# Altium schematic symbol library ThanhNT.SchLib: 223 symbols (part 2 of 3)
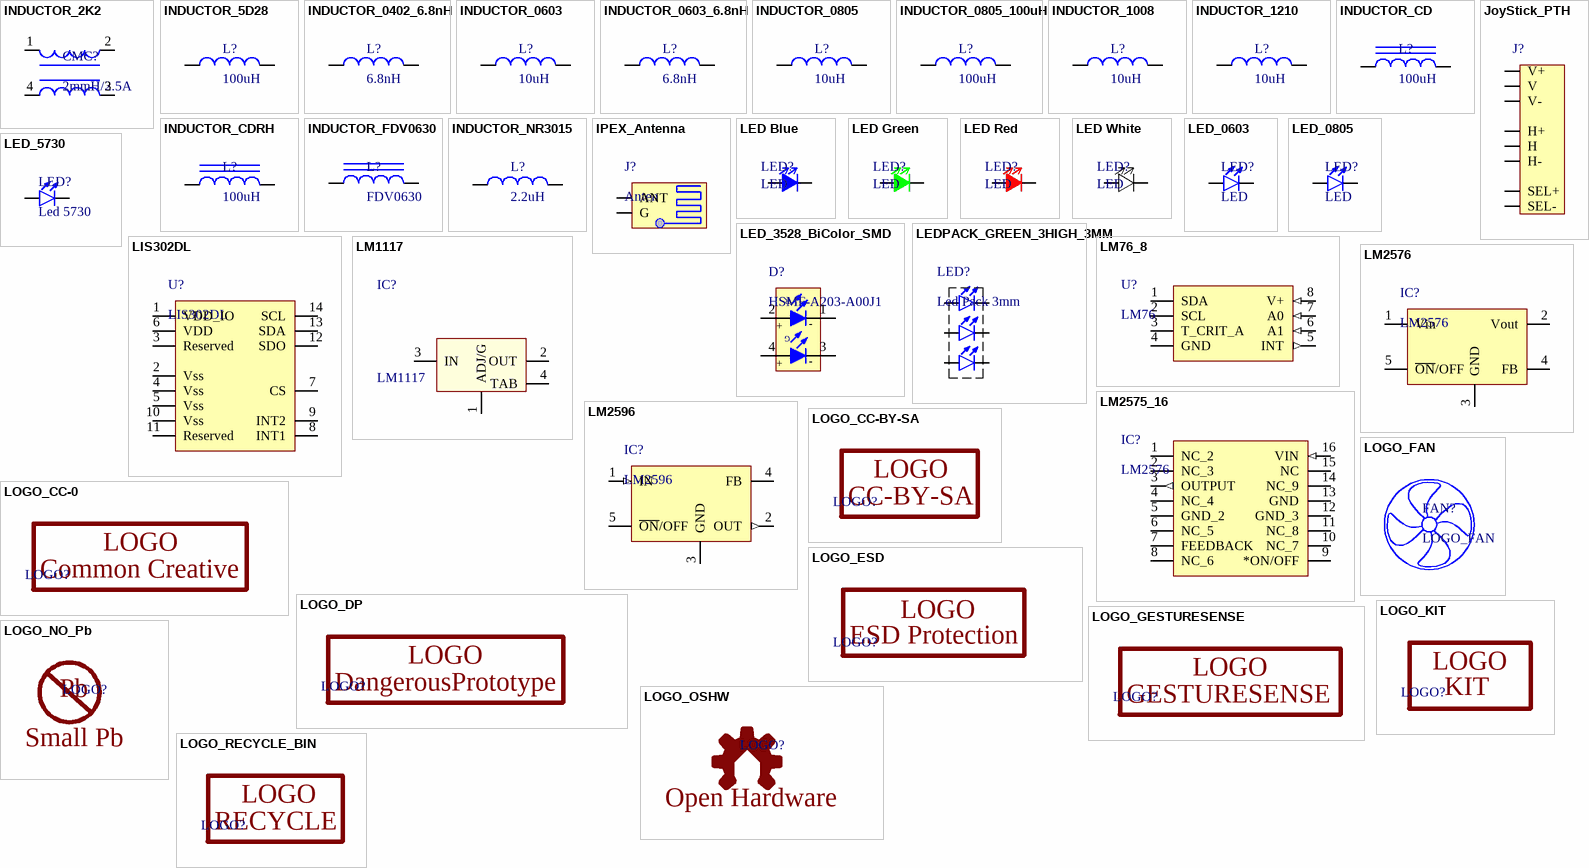
[diagram p7: symbols INDUCTOR_2K2 to LOGO_RECYCLE_BIN]

## LED_3528_BiColor_SMD
designator D?, comment HSMF-A203-A00J1
Manufacturer 1: Broadcom Limited; Description 1: LED GREEN/RED CLEAR 4PLCC SMD; Color: Green, Red; Lens Color: Colorless; Lens Transparency: Clear; Millicandela Rating: 8mcd Green, 16mcd Red; Lens Style/Size: Round with Flat Top, 2.20mm; Voltage - Forward (Vf) (Typ): 2.2V Green, 2.2V Red; Current - Test: 20mA Green, 20mA Red; Viewing Angle: 120°; Wavelength - Dominant: 560nm Green, 626nm Red; Wavelength - Peak: 558nm Green, 635nm Red; Supplier 1: Digi-Key; Manufacturer Part Number 1: HSMF-A203-A00J1; RoHS: RoHS Compliant; Category: Optoelectronics; Stock 1: 33976; Pricing 1: 1=0.62, 10=0.473, 25=0.396, 100=0.341, 250=0.30252, 500=0.2585, 1000=0.2035 (USD); Packaging: Cut Tape (CT); Part Status: Active; Mounting Type: Surface Mount; Features: -; Package / Case: 4-PLCC; Supplier Device Package: 4-PLCC; Size / Dimension: 3.20mm L x 2.80mm W; Height (Max): 2.10mm; ComponentLink1URL: http://www.avagotech.com/docs/AV02-0501EN; ComponentLink1Description: http://www.avagotech.com/docs/AV02-0501EN; Supplier Part Number 1: 516-3061-1-ND
footprint LED_3528_WL-SBTW
pins: 1 -, 2 +, 3 -, 4 +
text: R; G

## LED_5730
designator LED?, comment Led 5730
footprint LED_5730
pins: A, K

## LEDPACK_GREEN_3HIGH_3MM
designator LED?, comment Led Pack 3mm
footprint LED_3-HIGH_3MM (LED Circuit Board Indicator Tri-Level)
pins: A1 A, A2 A, A3 A, K1 K, K2 K, K3 K

## LIS302DL
designator U?
Low-Power 3 Axes Accelerometer; Manufacturer 1: STMicroelectronics; Manufacturer Part Number 1: LIS302DLTR; Description 1: ACCEL 2.3-9.2G I2C/SPI 14LGA; Axis: X, Y, Z; Acceleration Range: ±2.3g, 9.2g; Sensitivity (LSB/g): 55 (±2.3g) ~ 13 (±9.2g); Bandwidth: 50Hz ~ 200Hz; Output Type: I²C, SPI; Voltage - Supply: 2.16 V ~ 3.6 V; Supplier 1: Digi-Key; RoHS: RoHS Compliant; Category: Sensors, Transducers; Stock 1: 2691; Pricing 1: 1=2.99, 10=2.68, 100=2.1989, 500=1.87074, 1000=1.57536 (USD); Packaging: Digi-Reel®; Part Status: Active; Type: Digital; Sensitivity (mV/g): -; Features: Selectable Scale; Operating Temperature: -40°C ~ 85°C (TA); Mounting Type: Surface Mount; Package / Case: 14-VFLGA; Supplier Device Package: 14-LGA (3x5); ComponentLink1URL: http://www.st.com/web/en/resource/technical/document/datasheet/CD00135460.pdf; ComponentLink1Description: http://www.st.com/web/en/resource/technical/document/datasheet/CD00135460.pdf; Supplier Part Number 1: 497-5911-6-ND
footprint LGA-14
pins: 1 VDD_IO, 2 Vss, 3 Reserved, 4 Vss, 5 Vss, 6 VDD, 7 CS, 8 INT1, 9 INT2, 10 Vss, 11 Reserved, 12 SDO, 13 SDA, 14 SCL

## LM76_8
designator U?, comment LM76
pins: 1 SDA, 2 SCL, 3 T_CRIT_A, 4 GND, 5 INT (out), 6 A1 (in), 7 A0 (in), 8 V+ (in)

## LM1117
designator IC?
Available in 1.8V, 2.5V, 2.85V, 3.3V, 5V, and  Adjustable Versions; Value: LM317
footprint SOT223 (SOT223 /SC-73)
footprint SOT89-3 (JEDEC TO-243 option AA / SOT89)
pins: 1 ADJ/G, 2 OUT, 3 IN, 4 TAB

## LM2575_16
designator IC?, comment LM2576
pins: 1 NC_2, 2 NC_3, 3 OUTPUT (out), 4 NC_4, 5 GND_2 (power), 6 NC_5, 7 FEEDBACK, 8 NC_6, 9 *ON/OFF, 10 NC_7, 11 NC_8, 12 GND_3 (power), 13 GND (power), 14 NC_9, 15 NC, 16 VIN (in)

## LM2576
designator IC?
footprint D2PAK-5, TO-263-5 (D-PAK/TO-263-5; 5 Leads; Body 14.4 (inc. leads) x 10.4 mm (LxW max))
pins: 1 Vin, 2 Vout, 3 GND, 4 FB, 5 ~{ON}/OFF

## LM2596
designator IC?
footprint T05D
footprint D2PAK-5, TO-263-5 (D-PAK/TO-263-5; 5 Leads; Body 14.4 (inc. leads) x 10.4 mm (LxW max))
pins: 1 IN (in), 2 OUT (out), 3 GND, 4 FB, 5 ~{ON}/OFF

## LOGO_CC-0
designator LOGO?  (value not drawn)
footprint LOGO_CC-0
text: LOGO; Common Creative

## LOGO_CC-BY-SA
designator LOGO?  (value not drawn)
footprint LOGO_CC-BY-SA
text: LOGO; CC-BY-SA

## LOGO_DP
designator LOGO?  (value not drawn)
footprint LOGO_DP (Dangerous Prototype Logo)
footprint LOGO_DP_ART_0.5X0.5 (Dangerous Prototype Logo)
footprint LOGO_DP_ART_1X1 (Dangerous Prototype Logo)
text: LOGO; DangerousPrototype

## LOGO_ESD
designator LOGO?  (value not drawn)
footprint LOGO_ESD_SYMBOL
text: LOGO; ESD Protection

## LOGO_FAN
designator FAN?

## LOGO_GESTURESENSE
designator LOGO?  (value not drawn)
footprint LOGO_GESTURESENSE (Logo Gesturesense(TM))
text: LOGO; GESTURESENSE

## LOGO_KIT
designator LOGO?  (value not drawn)
footprint LOGO_FKIT-MEDIUM
footprint LOGO_FKIT-SMALL
footprint LOGO_FKIT-VERY_SMALL
text: LOGO; KIT

## LOGO_NO_Pb
designator LOGO?
footprint LOGO_PB_SMALL
text: Pb; Small Pb

## LOGO_OSHW
designator LOGO?  (value not drawn)
footprint LOGO-OSHW-L (Open Source - Hardware)
footprint LOGO-OSHW-M (Open Source - Hardware)
footprint LOGO-OSHW-S (Open Source - Hardware)
text: Open Hardware

## LOGO_RECYCLE_BIN
designator LOGO?  (value not drawn)
footprint LOGO_RECYCLE_BIN1/8
text: LOGO; RECYCLE

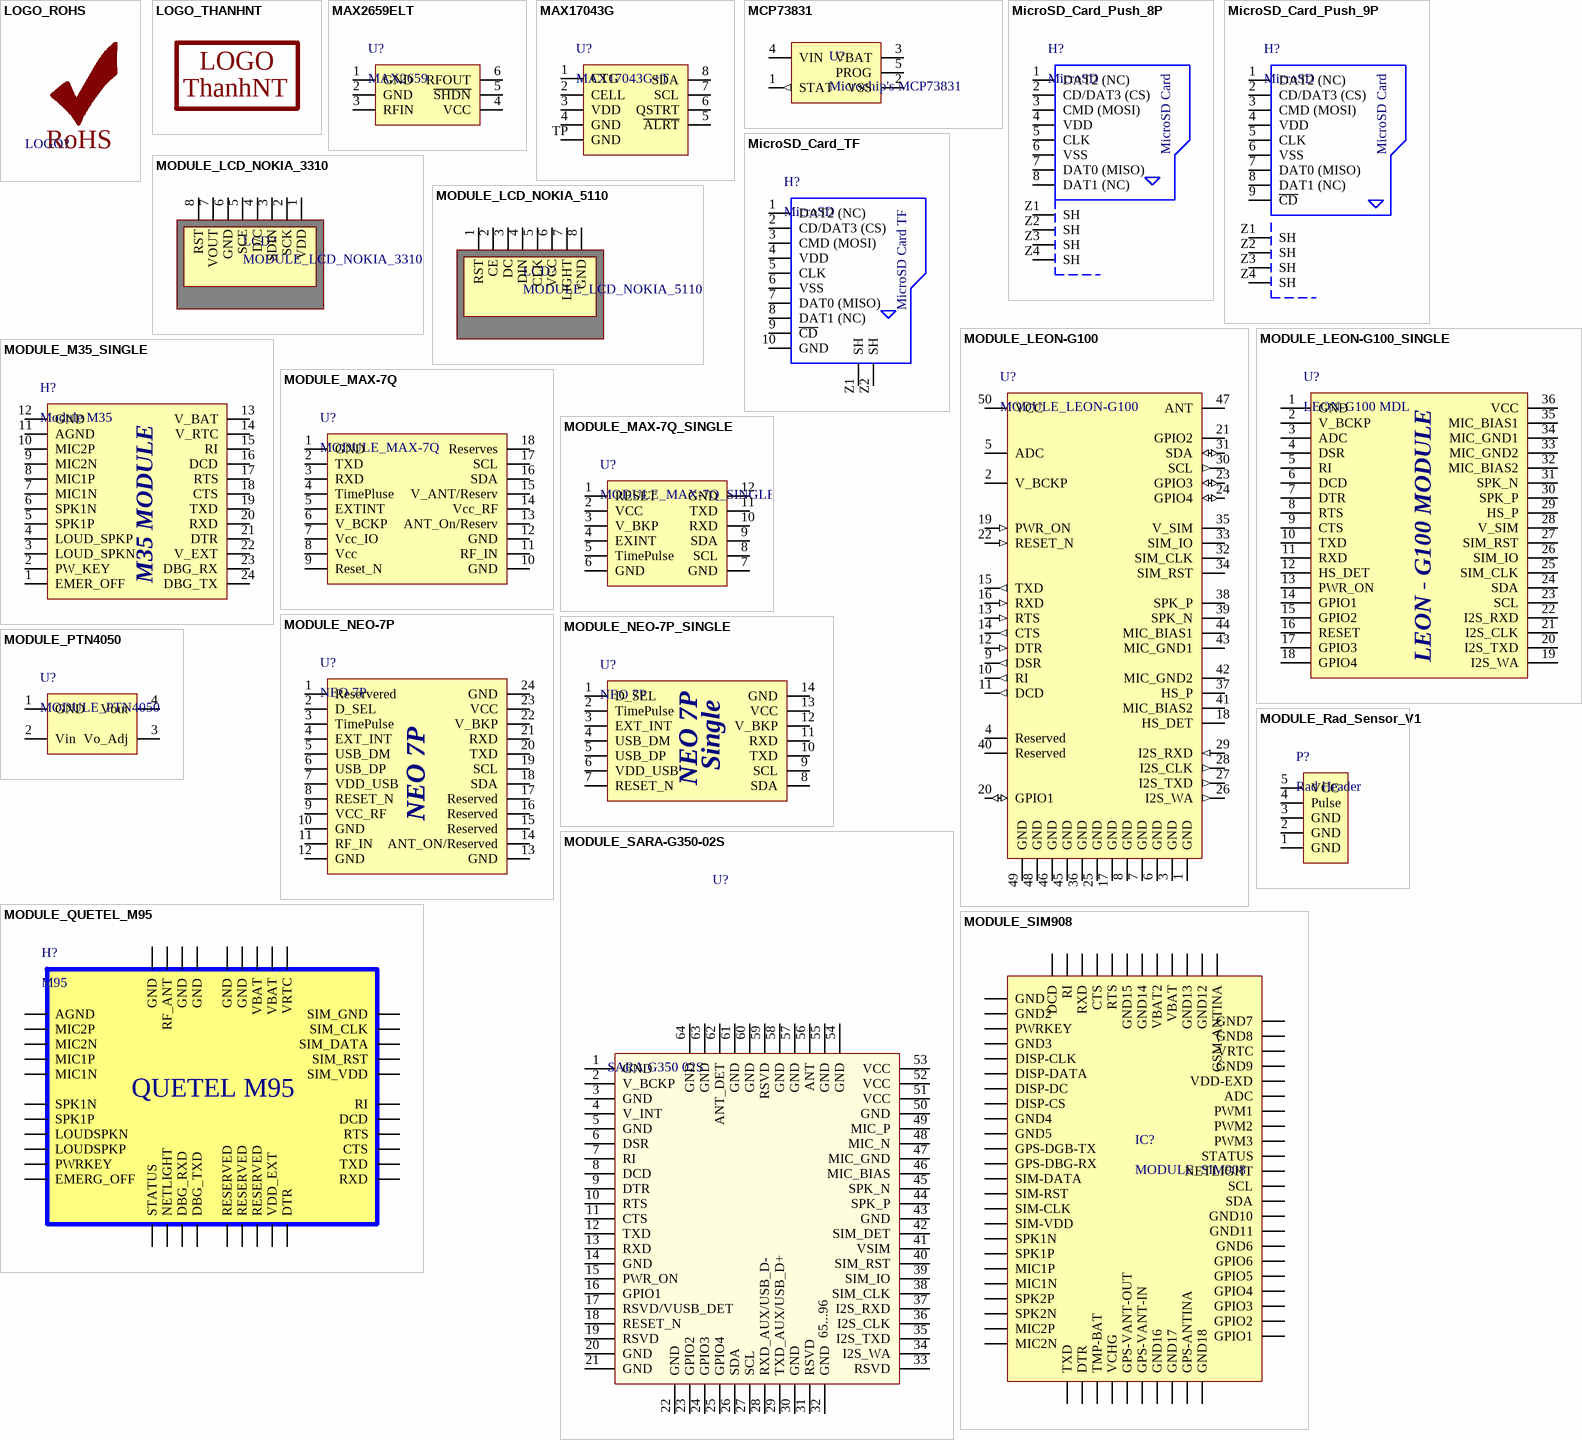
[diagram p3: symbols LOGO_ROHS to MODULE_SIM908]

## LOGO_ROHS
designator LOGO?
footprint LOGO_ROHS (RoHS Logo)
text: RoHS

## LOGO_THANHNT
designator LOGO?
footprint LOGO_THANHNT
text: LOGO; ThanhNT

## MAX2659ELT
designator U?, comment MAX2659
GPS Signal Amplifier; Manufacturer 1: Maxim Integrated; Manufacturer Part Number 1: MAX2659ELT+T; Description 1: IC AMP LOW NOISE 6-UDFN; Frequency: 1575.42MHz; P1dB: -12dBm; Gain: 20.5dB; Noise Figure: 0.8dB; RF Type: GPS/GNSS; Voltage - Supply: 1.6 V ~ 3.3 V; Current - Supply: 4.1mA; Supplier 1: Digi-Key; RoHS: RoHS Compliant; Category: RF/IF and RFID; Stock 1: 2104; Pricing 1: 1=1.51, 10=1.428, 25=1.1424, 50=1.0852, 100=0.9996, 250=0.9482, 500=0.91392 (USD); Packaging: Cut Tape (CT); Part Status: Discontinued; Test Frequency: 1575.42MHz; Package / Case: 6-WFDFN; Supplier Device Package: 6-uDFN (1.5x1.0); ComponentLink1URL: http://datasheets.maximintegrated.com/en/ds/MAX2659.pdf; ComponentLink1Description: http://datasheets.maximintegrated.com/en/ds/MAX2659.pdf; Supplier Part Number 1: MAX2659ELT+TCT-ND
footprint UDFN-6
pins: 1 GND, 2 GND, 3 RFIN, 4 VCC, 5 ~{SHDN}, 6 RFOUT

## MAX17043G
designator U?, comment MAX17043G+T
Battery Battery Monitor IC Lithium-Ion/Polymer; Manufacturer 1: Maxim Integrated; Description 1: IC 2-WIRE FG MODEL GAUGE LO BATT; Number of Cells: 1; Interface: I²C; Supplier 1: Digi-Key; Manufacturer Part Number 1: MAX17043G+T; RoHS: RoHS Compliant; Category: Integrated Circuits (ICs); Stock 1: 0; Pricing 1: 0=0 (USD); Packaging: Tape & Reel (TR); Part Status: Active; Function: Battery Monitor; Battery Chemistry: Lithium-Ion/Polymer; Fault Protection: -; Operating Temperature: -20°C ~ 70°C (TA); Package / Case: 8-WFDFN Exposed Pad; Supplier Device Package: 8-TDFN (2x3); ComponentLink1URL: http://datasheets.maximintegrated.com/en/ds/MAX17043-MAX17044.pdf; ComponentLink1Description: http://datasheets.maximintegrated.com/en/ds/MAX17043-MAX17044.pdf; Supplier Part Number 1: MAX17043G+T-ND
footprint TDFN-8
pins: 1 CTG, 2 CELL, 3 VDD, 4 GND, 5 ~{ALRT}, 6 QSTRT, 7 SCL, 8 SDA, TP GND

## MCP73831
designator U?, comment Microchip's MCP73831
Manufacturer 1: Microchip Technology; Manufacturer Part Number 1: MCP73831T-2ACI/OT; Description 1: IC CONTROLLR LI-ION 4.2V SOT23-5; Battery Chemistry: Lithium-Ion/Polymer; Number of Cells: 1; Current - Charging: Constant - Programmable; Programmable Features: Current; Fault Protection: Over Voltage; Charge Current - Max: 500mA; Battery Pack Voltage: 4.2V; Voltage - Supply (Max): 6V; Supplier 1: Digi-Key; RoHS: RoHS Compliant; Category: Integrated Circuits (ICs); Stock 1: 30932; Pricing 1: 1=0.56, 25=0.47, 100=0.42 (USD); Packaging: Digi-Reel®; Part Status: Active; Interface: -; Operating Temperature: -40°C ~ 85°C (TA); Package / Case: SC-74A, SOT-753; Supplier Device Package: SOT-23-5; ComponentLink1URL: http://www.microchip.com/mymicrochip/filehandler.aspx?ddocname=en025112; ComponentLink1Description: http://www.microchip.com/mymicrochip/filehandler.aspx?ddocname=en025112; Supplier Part Number 1: MCP73831T-2ACI/OTDKR-ND
footprint SOT23-5
pins: 1 STAT (out), 2 VSS (power), 3 VBAT (power), 4 VIN (power), 5 PROG

## MicroSD_Card_Push_8P
designator H?, comment MicroSD
footprint CONN_Micro_SD_Hinge_8P (WR-CRD Micro SD_Hinge_8 pins (MicroSD TF v2 - MinhHa))
footprint CONN_MICRO_SD_PUSH_8P (WR-CRD Micro SD_Push and Push_Card Detection_8 pins (MinhHa TF v5))
pins: 1 DAT2 (NC), 2 CD/DAT3 (CS), 3 CMD (MOSI), 4 VDD, 5 CLK, 6 VSS, 7 DAT0 (MISO), 8 DAT1 (NC), Z1 SH, Z2 SH, Z3 SH, Z4 SH
text: MicroSD Card

## MicroSD_Card_Push_9P
designator H?, comment MicroSD
footprint CONN_MICRO_SD_PUSH_9P (WR-CRD Micro SD_Push and Push_Card Detection_9 pins (MinhHa TF v3))
pins: 1 DAT2 (NC), 2 CD/DAT3 (CS), 3 CMD (MOSI), 4 VDD, 5 CLK, 6 VSS, 7 DAT0 (MISO), 8 DAT1 (NC), 9 ~{CD}, Z1 SH, Z2 SH, Z3 SH, Z4 SH
text: MicroSD Card

## MicroSD_Card_TF
designator H?, comment MicroSD
footprint CONN_Micro_SD_TF_8P_1 (MicroSD TF 8 Pin (MicroSD TF v1 - MinhHa))
pins: 1 DAT2 (NC), 2 CD/DAT3 (CS), 3 CMD (MOSI), 4 VDD, 5 CLK, 6 VSS, 7 DAT0 (MISO), 8 DAT1 (NC), 9 ~{CD}, 10 GND, Z1 SH, Z2 SH
text: MicroSD Card TF

## MODULE_LCD_NOKIA_3310
designator LCD?
NOKIA 3310 LCD
footprint MODULE_LCD_NOKIA_3310 (NOKIA 3310 LCD)
pins: 1 VDD, 2 SCK, 3 SDIN, 4 D/C, 5 SCE, 6 GND, 7 VOUT, 8 RST

## MODULE_LCD_NOKIA_5110
designator LCD?
NOKIA 5110 LCD
footprint MODULE_LCD_NOKIA_5110 (NOKIA 5110 LCD)
pins: 1 RST, 2 CE, 3 DC, 4 DIN, 5 CLK, 6 VCC, 7 LIGHT, 8 GND

## MODULE_LEON-G100
designator U?
footprint MODULE_LEON-GX (Footprint not found)
pins: 1 GND, 2 V_BCKP, 3 GND, 4 Reserved, 5 ADC, 6 GND, 7 GND, 8 GND, 9 DSR (out), 10 RI (out), 11 DCD (out), 12 DTR (in), 13 RTS (in), 14 CTS (out), 15 TXD (out), 16 RXD (in), 17 GND, 18 HS_DET, 19 PWR_ON (in), 20 GPIO1 (io), 21 GPIO2, 22 RESET_N (in), 23 GPIO3 (io), 24 GPIO4 (io), 25 GND, 26 I2S_WA (out), 27 I2S_TXD (out), 28 I2S_CLK (out), 29 I2S_RXD (in), 30 SCL (out), 31 SDA (io), 32 SIM_CLK, 33 SIM_IO, 34 SIM_RST, 35 V_SIM, 36 GND, 37 HS_P, 38 SPK_P, 39 SPK_N, 40 Reserved, 41 MIC_BIAS2, 42 MIC_GND2, 43 MIC_GND1, 44 MIC_BIAS1, 45 GND, 46 GND, 47 ANT, 48 GND, 49 GND, 50 VCC

## MODULE_LEON-G100_SINGLE
designator U?, comment LEON-G100 MDL
footprint MODULE_LEON-G100_SINGLE
pins: 1 GND, 2 V_BCKP, 3 ADC, 4 DSR, 5 RI, 6 DCD, 7 DTR, 8 RTS, 9 CTS, 10 TXD, 11 RXD, 12 HS_DET, 13 PWR_ON, 14 GPIO1, 15 GPIO2, 16 RESET, 17 GPIO3, 18 GPIO4, 19 I2S_WA, 20 I2S_TXD, 21 I2S_CLK, 22 I2S_RXD, 23 SCL, 24 SDA, 25 SIM_CLK, 26 SIM_IO, 27 SIM_RST, 28 V_SIM, 29 HS_P, 30 SPK_P, 31 SPK_N, 32 MIC_BIAS2, 33 MIC_GND2, 34 MIC_GND1, 35 MIC_BIAS1, 36 VCC
text: LEON - G100 MODULE

## MODULE_M35_SINGLE
designator H?, comment Module M35
footprint Module_M35_SINGLE
pins: 1 EMER_OFF, 2 PW_KEY, 3 LOUD_SPKN, 4 LOUD_SPKP, 5 SPK1P, 6 SPK1N, 7 MIC1N, 8 MIC1P, 9 MIC2N, 10 MIC2P, 11 AGND, 12 GND, 13 V_BAT, 14 V_RTC, 15 RI, 16 DCD, 17 RTS, 18 CTS, 19 TXD, 20 RXD, 21 DTR, 22 V_EXT, 23 DBG_RX, 24 DBG_TX
text: M35 MODULE

## MODULE_MAX-7Q
designator U?
footprint MODULE_MAX-7Q
pins: 1 GND, 2 TXD, 3 RXD, 4 TimePluse, 5 EXTINT, 6 V_BCKP, 7 Vcc_IO, 8 Vcc, 9 Reset_N, 10 GND, 11 RF_IN, 12 GND, 13 ANT_On/Reserv, 14 Vcc_RF, 15 V_ANT/Reserv, 16 SDA, 17 SCL, 18 Reserves

## MODULE_MAX-7Q_SINGLE
designator U?
footprint MODULE_MAX-7Q-SINGLE
pins: 1 RESET, 2 VCC, 3 V_BKP, 4 EXINT, 5 TimePulse, 6 GND, 7 GND, 8 SCL, 9 SDA, 10 RXD, 11 TXD, 12 GND

## MODULE_NEO-7P
designator U?, comment NEO 7P
Module GPS NEO 7P (Ublox)
footprint MODULE_NEO-7P
pins: 1 Reservered, 2 D_SEL, 3 TimePulse, 4 EXT_INT, 5 USB_DM, 6 USB_DP, 7 VDD_USB, 8 RESET_N, 9 VCC_RF, 10 GND, 11 RF_IN, 12 GND, 13 GND, 14 ANT_ON/Reserved, 15 Reserved, 16 Reserved, 17 Reserved, 18 SDA, 19 SCL, 20 TXD, 21 RXD, 22 V_BKP, 23 VCC, 24 GND

## MODULE_NEO-7P_SINGLE
designator U?, comment NEO 7P
Module GPS NEO 7P (Ublox)
footprint MODULE_NEO-7P_SINGLE
pins: 1 D_SEL, 2 TimePulse, 3 EXT_INT, 4 USB_DM, 5 USB_DP, 6 VDD_USB, 7 RESET_N, 8 SDA, 9 SCL, 10 TXD, 11 RXD, 12 V_BKP, 13 VCC, 14 GND
text: Single

## MODULE_PTN4050
designator U?
footprint EUU
pins: 1 GND, 2 Vin, 3 Vo_Adj, 4 Vout

## MODULE_QUETEL_M95
designator H?, comment M95
footprint MODULE_QUETEL_M95
pins: 1 AGND, 2 MIC2P, 3 MIC2N, 4 MIC1P, 5 MIC1N, 6 SPK1N, 7 SPK1P, 8 LOUDSPKN, 9 LOUDSPKP, 10 PWRKEY, 11 EMERG_OFF, 12 STATUS, 13 NETLIGHT, 14 DBG_RXD, 15 DBG_TXD, 16 RESERVED, 17 RESERVED, 18 RESERVED, 19 VDD_EXT, 20 DTR, 21 RXD, 22 TXD, 23 CTS, 24 RTS, 25 DCD, 26 RI, 27 SIM_VDD, 28 SIM_RST, 29 SIM_DATA, 30 SIM_CLK, 31 SIM_GND, 32 VRTC, 33 VBAT, 34 VBAT, 35 GND, 36 GND, 37 GND, 38 GND, 39 RF_ANT, 40 GND
text: QUETEL M95

## MODULE_Rad_Sensor_V1
designator P?, comment Rad Header
footprint Rad_Sensor
pins: 1 GND, 2 GND, 3 GND, 4 Pulse, 5 VCC

## MODULE_SARA-G350-02S
designator U?, comment SARA G350 02S
GSM/GPRS and GSM/EGPRS/HSPA Cellular Module; Manufacturer 1: U-Blox America Inc.; Manufacturer Part Number 1: SARA-G350-02S; Description 1: RF TXRX MODULE CELLULAR; Protocol: GPRS, GSM; Frequency: 824MHz ~ 960MHz, 1.71GHz ~ 1.99GHz; Data Rate: 85.6kbps; Power - Output: 32.2dBm; Sensitivity: -109dBm; Serial Interfaces: SPI, UART; Antenna Type: Not Included; Voltage - Supply: 3.8V; Current - Receiving: 350mA; Supplier 1: Digi-Key; RoHS: RoHS Compliant; Category: RF/IF and RFID; Stock 1: 0; Pricing 1: 1=21.28, 10=17.45, 50=14.83, 100=12.6101 (USD); Packaging: Digi-Reel®; Part Status: Active; RF Family/Standard: Cellular; Modulation: -; Memory Size: -; Current - Transmitting: 350mA; Mounting Type: Surface Mount; Operating Temperature: -40°C ~ 85°C; Package / Case: *; ComponentLink1URL: https://www.u-blox.com/sites/default/files/SARA-G3_DataSheet_(UBX-13000993).pdf; ComponentLink1Description: https://www.u-blox.com/sites/default/files/SARA-G3_DataSheet_(UBX-13000993).pdf; Supplier Part Number 1: 672-1024-6-ND
footprint MODULE_U-BLOX-SARA-XX
pins: 1 GND, 2 V_BCKP, 3 GND, 4 V_INT, 5 GND, 6 DSR, 7 RI, 8 DCD, 9 DTR, 10 RTS, 11 CTS, 12 TXD, 13 RXD, 14 GND, 15 PWR_ON, 16 GPIO1, 17 RSVD/VUSB_DET, 18 RESET_N, 19 RSVD, 20 GND, 21 GND, 22 GND, 23 GPIO2, 24 GPIO3, 25 GPIO4, 26 SDA, 27 SCL, 28 RXD_AUX/USB_D-, 29 TXD_AUX/USB_D+, 30 GND, 31 RSVD, 32 GND, 33 RSVD, 34 I2S_WA, 35 I2S_TXD, 36 I2S_CLK, 37 I2S_RXD, 38 SIM_CLK, 39 SIM_IO, 40 SIM_RST, 41 VSIM, 42 SIM_DET, 43 GND, 44 SPK_P, 45 SPK_N, 46 MIC_BIAS, 47 MIC_GND, 48 MIC_N, 49 MIC_P, 50 GND, 51 VCC, 52 VCC, 53 VCC, 54 GND, 55 GND, 56 ANT, 57 GND, 58 GND, 59 RSVD, 60 GND, 61 GND, 62 ANT_DET, 63 GND, 64 GND, 65 GND, 66 GND, 67 GND, 68 GND, 69 GND, 70 GND, 71 GND, 72 GND, 73 GND, 74 GND, 75 GND, 76 GND, 77 GND, 78 GND, 79 GND, 80 GND, 81 GND, 82 GND, 83 GND, 84 GND, 85 GND, 86 GND, 87 GND, 88 GND, 89 GND, 90 GND, 91 GND, 92 GND, 93 GND, 94 GND, 95 GND, 96 GND
text: 65...96

## MODULE_SIM908
designator IC?
footprint MODULE_SIM908
pins: ADC, CTS, DCD, DISP-CLK, DISP-CS, DISP-DATA, DISP-DC, DTR, GND, GND2, GND3, GND4, GND5, GND6, GND7, GND8, GND9, GND10, GND11, GND12, GND13, GND14, GND15, GND16, GND17, GND18, GPIO1, GPIO2, GPIO3, GPIO4, GPIO5, GPIO6, GPS-ANTINA, GPS-DBG-RXD GPS-DBG-RX, GPS-DBG-TXD GPS-DGB-TX, GPS-VANT-IN, GPS-VANT-OUT, GSM-ANTINA, MIC1N, MIC1P, MIC2N, MIC2P, NETLIGHT, PWM1, PWM2, PWM3, PWRKEY, RI, RTS, RXD, SCL, SDA, SIM-CLK, SIM-DATA, SIM-RST, SIM-VDD, SPK1N, SPK1P, SPK2N, SPK2P, STATUS, TEMP-BAT TMP-BAT, TXD, VBAT, VBAT2, VCHG, VDD-EXT VDD-EXD, VRTC

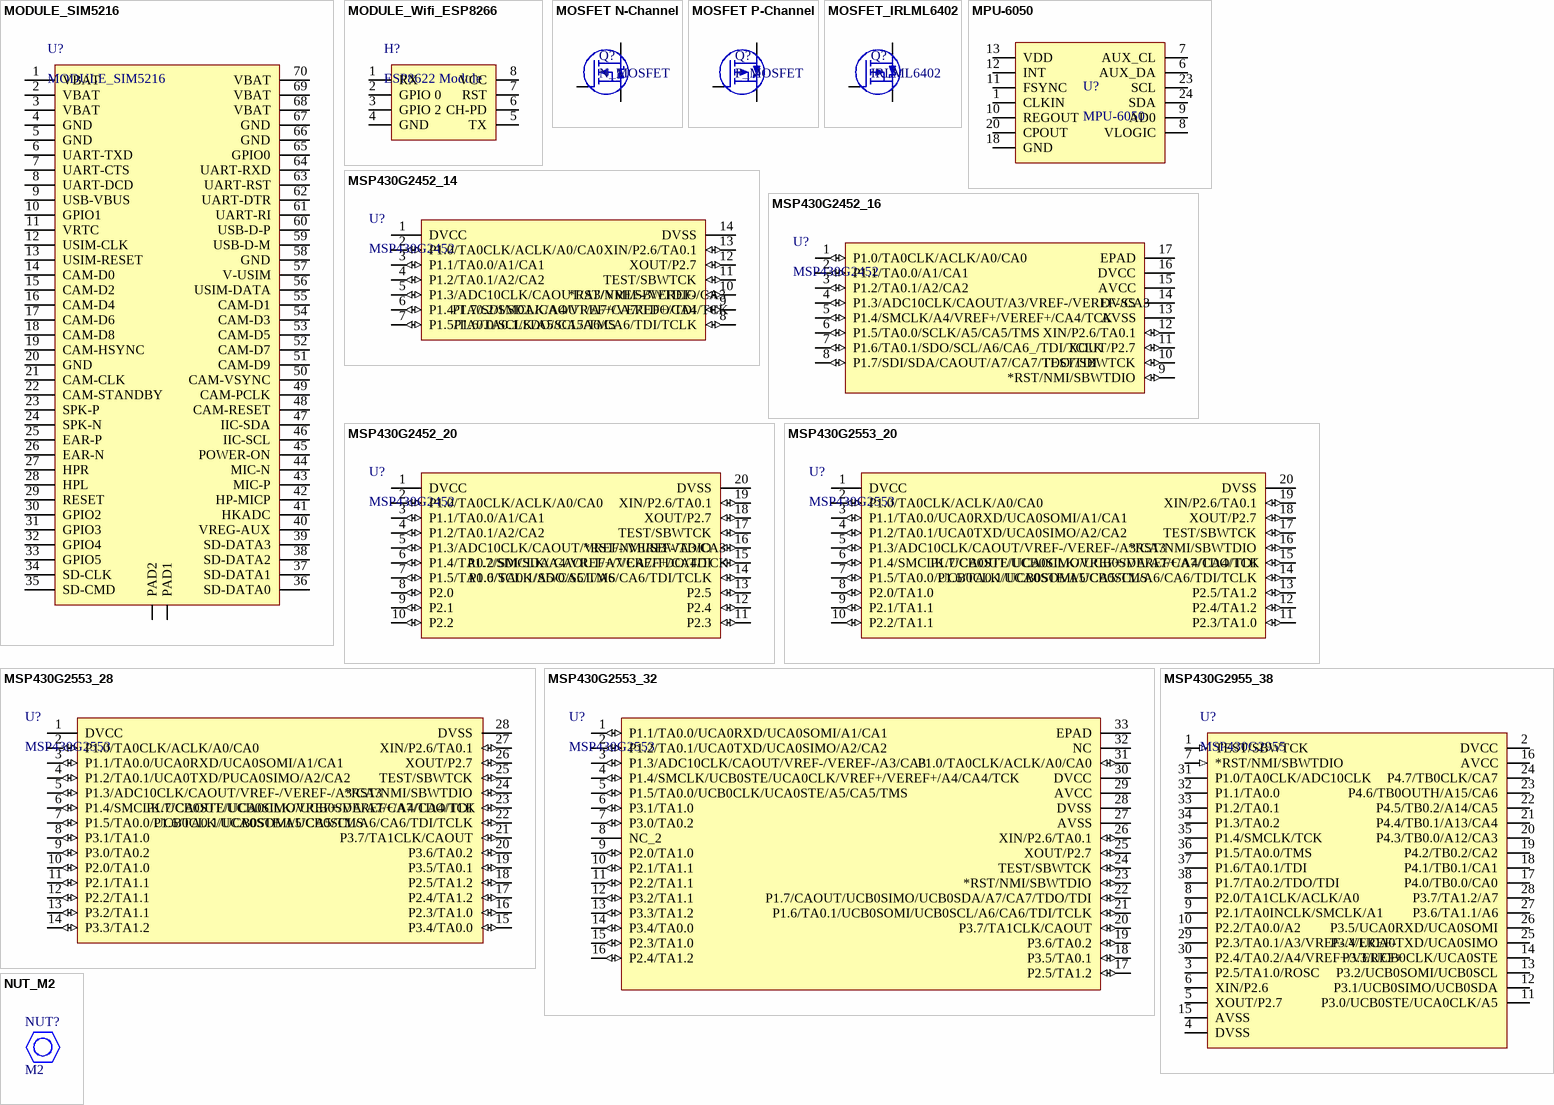
[diagram p4: symbols MODULE_SIM5216 to NUT_M2]

## MODULE_SIM5216
designator U?
footprint MODULE_SIM5216 (Board to Board Connector (SIM5215, 5216, 5218))
pins: 1 VBAT, 2 VBAT, 3 VBAT, 4 GND, 5 GND, 6 UART-TXD, 7 UART-CTS, 8 UART-DCD, 9 USB-VBUS, 10 GPIO1, 11 VRTC, 12 USIM-CLK, 13 USIM-RESET, 14 CAM-D0, 15 CAM-D2, 16 CAM-D4, 17 CAM-D6, 18 CAM-D8, 19 CAM-HSYNC, 20 GND, 21 CAM-CLK, 22 CAM-STANDBY, 23 SPK-P, 24 SPK-N, 25 EAR-P, 26 EAR-N, 27 HPR, 28 HPL, 29 RESET, 30 GPIO2, 31 GPIO3, 32 GPIO4, 33 GPIO5, 34 SD-CLK, 35 SD-CMD, 36 SD-DATA0, 37 SD-DATA1, 38 SD-DATA2, 39 SD-DATA3, 40 VREG-AUX, 41 HKADC, 42 HP-MICP, 43 MIC-P, 44 MIC-N, 45 POWER-ON, 46 IIC-SCL, 47 IIC-SDA, 48 CAM-RESET, 49 CAM-PCLK, 50 CAM-VSYNC, 51 CAM-D9, 52 CAM-D7, 53 CAM-D5, 54 CAM-D3, 55 CAM-D1, 56 USIM-DATA, 57 V-USIM, 58 GND, 59 USB-D-M, 60 USB-D-P, 61 UART-RI, 62 UART-DTR, 63 UART-RST, 64 UART-RXD, 65 GPIO0, 66 GND, 67 GND, 68 VBAT, 69 VBAT, 70 VBAT, PAD PAD1, PAD PAD2

## MODULE_Wifi_ESP8266
designator H?, comment ESP8622 Module
footprint MODULE_WIFI_ESP8622 (Connector; Header; 4x2 Position)
pins: 1 RX, 2 GPIO 0, 3 GPIO 2, 4 GND, 5 TX, 6 CH-PD, 7 RST, 8 VCC

## MOSFET N-Channel
designator Q?, comment N_MOSFET
Generic N-Channel MOSFET
footprint SOT323 (Small outline 2.1mm L x 1.25mm W x 1.1mm H; 3 lead SC70, EIAJ SC-70, SOT323)
pins: 1 G, 2 S, 3 D

## MOSFET P-Channel
designator Q?, comment P_MOSFET
Generic P-Channel MOSFET
footprint SOT323 (Small outline 2.1mm L x 1.25mm W x 1.1mm H; 3 lead SC70, EIAJ SC-70, SOT323)
pins: 1 G, 2 S, 3 D

## MOSFET_IRLML6402
designator Q?, comment IRLML6402
Generic P-Channel MOSFET; Manufacturer 1: Infineon Technologies; Manufacturer Part Number 1: IRLML6402TRPBF; Description 1: MOSFET P-CH 20V 3.7A SOT-23; FET Type: MOSFET P-Channel, Metal Oxide; FET Feature: Standard; Drain to Source Voltage (Vdss): 20V; Current - Continuous Drain (Id) @ 25°C: 3.7A (Ta); Rds On (Max) @ Id, Vgs: 65 mOhm @ 3.7A, 4.5V; Vgs(th) (Max) @ Id: 1.2V @ 250µA; Gate Charge (Qg) @ Vgs: 12nC @ 5V; Input Capacitance (Ciss) @ Vds: 633pF @ 10V; Power - Max: 1.3W; Supplier 1: Digi-Key; RoHS: RoHS Compliant; Category: Discrete Semiconductor Products; Stock 1: 207858; Pricing 1: 1=0.4, 10=0.302, 100=0.1879, 500=0.12854, 1000=0.09888 (USD); Packaging: Cut Tape (CT); Part Status: Active; Operating Temperature: -55°C ~ 150°C (TJ); Mounting Type: Surface Mount; Package / Case: TO-236-3, SC-59, SOT-23-3; Supplier Device Package: Micro3™/SOT-23; ComponentLink1URL: http://www.irf.com/product-info/datasheets/data/irlml6402pbf.pdf; ComponentLink1Description: http://www.irf.com/product-info/datasheets/data/irlml6402pbf.pdf; Supplier Part Number 1: IRLML6402PBFCT-ND
footprint SOT23-3 (SOT23, 3 pin)
pins: 1 G, 2 S, 3 D

## MPU-6050
designator U?
footprint QFN50P400X400X80-24N
pins: 1 CLKIN, 6 AUX_DA, 7 AUX_CL, 8 VLOGIC, 9 AD0, 10 REGOUT, 11 FSYNC, 12 INT, 13 VDD, 18 GND, 20 CPOUT, 23 SCL, 24 SDA

## MSP430G2452_14
designator U?, comment MSP430G2452
pins: 1 DVCC (power), 2 P1.0/TA0CLK/ACLK/A0/CA0 (io), 3 P1.1/TA0.0/A1/CA1 (io), 4 P1.2/TA0.1/A2/CA2 (io), 5 P1.3/ADC10CLK/CAOUT/A3/VREF-/VEREF-/CA3 (io), 6 P1.4/TA0.2/SMCLK/A4/VREF+/VEREF+/CA4/TCK (io), 7 P1.5/TA0.0/SCLK/A5/CA5/TMS (io), 8 P1.6/TA0.1/SDO/SCL/A6/CA6/TDI/TCLK (io), 9 P1.7/SDI/SDA/CAOUT/A7/CA7/TDO/TDI (io), 10 *RST/NMI/SBWTDIO (io), 11 TEST/SBWTCK (io), 12 XOUT/P2.7 (io), 13 XIN/P2.6/TA0.1 (io), 14 DVSS (power)

## MSP430G2452_16
designator U?, comment MSP430G2452
pins: 1 P1.0/TA0CLK/ACLK/A0/CA0 (io), 2 P1.1/TA0.0/A1/CA1 (io), 3 P1.2/TA0.1/A2/CA2 (io), 4 P1.3/ADC10CLK/CAOUT/A3/VREF-/VEREF-/CA3 (io), 5 P1.4/SMCLK/A4/VREF+/VEREF+/CA4/TCK (io), 6 P1.5/TA0.0/SCLK/A5/CA5/TMS (io), 7 P1.6/TA0.1/SDO/SCL/A6/CA6_/TDI/TCLK (io), 8 P1.7/SDI/SDA/CAOUT/A7/CA7/TDO/TDI (io), 9 *RST/NMI/SBWTDIO (io), 10 TEST/SBWTCK (io), 11 XOUT/P2.7 (io), 12 XIN/P2.6/TA0.1 (io), 13 AVSS (power), 14 DVSS (power), 15 AVCC (power), 16 DVCC (power), 17 EPAD

## MSP430G2452_20
designator U?, comment MSP430G2452
pins: 1 DVCC (power), 2 P1.0/TA0CLK/ACLK/A0/CA0 (io), 3 P1.1/TA0.0/A1/CA1 (io), 4 P1.2/TA0.1/A2/CA2 (io), 5 P1.3/ADC10CLK/CAOUT/VREF-/VEREF-/A3/CA3 (io), 6 P1.4/TA0.2/SMCLK/A4/VREF+/VEREF+/CA4/TCK (io), 7 P1.5/TA0.0/SCLK/A5/CA5/TMS (io), 8 P2.0 (io), 9 P2.1 (io), 10 P2.2 (io), 11 P2.3 (io), 12 P2.4 (io), 13 P2.5 (io), 14 P1.6/TA0.1/SDO/SCL/A6/CA6/TDI/TCLK (io), 15 P1.7/SDI/SDA/CAOUT/A7/CA7/TDO/TDI (io), 16 *RST/NMI/SBWTDIO (io), 17 TEST/SBWTCK (io), 18 XOUT/P2.7 (io), 19 XIN/P2.6/TA0.1 (io), 20 DVSS (power)

## MSP430G2553_20
designator U?, comment MSP430G2553
pins: 1 DVCC (power), 2 P1.0/TA0CLK/ACLK/A0/CA0 (io), 3 P1.1/TA0.0/UCA0RXD/UCA0SOMI/A1/CA1 (io), 4 P1.2/TA0.1/UCA0TXD/UCA0SIMO/A2/CA2 (io), 5 P1.3/ADC10CLK/CAOUT/VREF-/VEREF-/A3/CA3 (io), 6 P1.4/SMCLK/UCB0STE/UCA0CLK/VREF+/VEREF+/A4/CA4/TCK (io), 7 P1.5/TA0.0/UCB0CLK/UCA0STE/A5/CA5/TMS (io), 8 P2.0/TA1.0 (io), 9 P2.1/TA1.1 (io), 10 P2.2/TA1.1 (io), 11 P2.3/TA1.0 (io), 12 P2.4/TA1.2 (io), 13 P2.5/TA1.2 (io), 14 P1.6/TA0.1/UCB0SOMI/UCB0SCL/A6/CA6/TDI/TCLK (io), 15 P1.7/CAOUT/UCB0SIMO/UCB0SDA/A7/CA7/TDO/TDI (io), 16 *RST/NMI/SBWTDIO (io), 17 TEST/SBWTCK (io), 18 XOUT/P2.7 (io), 19 XIN/P2.6/TA0.1 (io), 20 DVSS (power)

## MSP430G2553_28
designator U?, comment MSP430G2553
footprint PW028 (Shrink Small Outline; 28 Leads; Body Width 4.4 mm; Pitch 0.65 mm)
pins: 1 DVCC (power), 2 P1.0/TA0CLK/ACLK/A0/CA0 (io), 3 P1.1/TA0.0/UCA0RXD/UCA0SOMI/A1/CA1 (io), 4 P1.2/TA0.1/UCA0TXD/PUCA0SIMO/A2/CA2 (io), 5 P1.3/ADC10CLK/CAOUT/VREF-/VEREF-/A3/CA3 (io), 6 P1.4/SMCLK/UCB0STE/UCA0CLK/VREF+/VEREF+/A4/CA4/TCK (io), 7 P1.5/TA0.0/UCB0CLK/UCA0STE/A5/CA5/TMS (io), 8 P3.1/TA1.0 (io), 9 P3.0/TA0.2 (io), 10 P2.0/TA1.0 (io), 11 P2.1/TA1.1 (io), 12 P2.2/TA1.1 (io), 13 P3.2/TA1.1 (io), 14 P3.3/TA1.2 (io), 15 P3.4/TA0.0 (io), 16 P2.3/TA1.0 (io), 17 P2.4/TA1.2 (io), 18 P2.5/TA1.2 (io), 19 P3.5/TA0.1 (io), 20 P3.6/TA0.2 (io), 21 P3.7/TA1CLK/CAOUT (io), 22 P1.6/TA0.1/UCB0SOMI/UCB0SCL/A6/CA6/TDI/TCLK (io), 23 P1.7/CAOUT/UCB0SIMO/UCB0SDA/A7/CA7/TDO/TDI (io), 24 *RST/NMI/SBWTDIO (io), 25 TEST/SBWTCK (io), 26 XOUT/P2.7 (io), 27 XIN/P2.6/TA0.1 (io), 28 DVSS (power)

## MSP430G2553_32
designator U?, comment MSP430G2553
pins: 1 P1.1/TA0.0/UCA0RXD/UCA0SOMI/A1/CA1 (io), 2 P1.2/TA0.1/UCA0TXD/UCA0SIMO/A2/CA2 (io), 3 P1.3/ADC10CLK/CAOUT/VREF-/VEREF-/A3/CA3 (io), 4 P1.4/SMCLK/UCB0STE/UCA0CLK/VREF+/VEREF+/A4/CA4/TCK (io), 5 P1.5/TA0.0/UCB0CLK/UCA0STE/A5/CA5/TMS (io), 6 P3.1/TA1.0 (io), 7 P3.0/TA0.2 (io), 8 NC_2, 9 P2.0/TA1.0 (io), 10 P2.1/TA1.1 (io), 11 P2.2/TA1.1 (io), 12 P3.2/TA1.1 (io), 13 P3.3/TA1.2 (io), 14 P3.4/TA0.0 (io), 15 P2.3/TA1.0 (io), 16 P2.4/TA1.2 (io), 17 P2.5/TA1.2 (io), 18 P3.5/TA0.1 (io), 19 P3.6/TA0.2 (io), 20 P3.7/TA1CLK/CAOUT (io), 21 P1.6/TA0.1/UCB0SOMI/UCB0SCL/A6/CA6/TDI/TCLK (io), 22 P1.7/CAOUT/UCB0SIMO/UCB0SDA/A7/CA7/TDO/TDI (io), 23 *RST/NMI/SBWTDIO (io), 24 TEST/SBWTCK (io), 25 XOUT/P2.7 (io), 26 XIN/P2.6/TA0.1 (io), 27 AVSS (power), 28 DVSS (power), 29 AVCC (power), 30 DVCC (power), 31 P1.0/TA0CLK/ACLK/A0/CA0 (io), 32 NC, 33 EPAD

## MSP430G2955_38
designator U?, comment MSP430G2955
pins: 1 TEST/SBWTCK (in), 2 DVCC (power), 3 P2.5/TA1.0/ROSC, 4 DVSS (power), 5 XOUT/P2.7, 6 XIN/P2.6, 7 *RST/NMI/SBWTDIO (in), 8 P2.0/TA1CLK/ACLK/A0, 9 P2.1/TA0INCLK/SMCLK/A1, 10 P2.2/TA0.0/A2, 11 P3.0/UCB0STE/UCA0CLK/A5, 12 P3.1/UCB0SIMO/UCB0SDA, 13 P3.2/UCB0SOMI/UCB0SCL, 14 P3.3/UCB0CLK/UCA0STE, 15 AVSS (power), 16 AVCC (power), 17 P4.0/TB0.0/CA0, 18 P4.1/TB0.1/CA1, 19 P4.2/TB0.2/CA2, 20 P4.3/TB0.0/A12/CA3, 21 P4.4/TB0.1/A13/CA4, 22 P4.5/TB0.2/A14/CA5, 23 P4.6/TB0OUTH/A15/CA6, 24 P4.7/TB0CLK/CA7, 25 P3.4/UCA0TXD/UCA0SIMO, 26 P3.5/UCA0RXD/UCA0SOMI, 27 P3.6/TA1.1/A6, 28 P3.7/TA1.2/A7, 29 P2.3/TA0.1/A3/VREF-/VEREF-, 30 P2.4/TA0.2/A4/VREF+/VEREF+, 31 P1.0/TA0CLK/ADC10CLK, 32 P1.1/TA0.0, 33 P1.2/TA0.1, 34 P1.3/TA0.2, 35 P1.4/SMCLK/TCK, 36 P1.5/TA0.0/TMS, 37 P1.6/TA0.1/TDI, 38 P1.7/TA0.2/TDO/TDI

## NUT_M2
designator NUT?, comment M2
ROEBUCK - PFP1166 - FULL NUT A4 SS M2 (PK 100); Fastener Material: Stainless Steel; .Checked SCH: MM; Category: Hardware, Fasteners, Accessories; Family: Nuts; Manufacturer: ROEBUCK; Manufacturer Part Number: PFP1166; Price 1k [$]: 0.04; Supplier: Farnell; Supplier Part Number: 1552206; Value: M2; Type: Hex; Thread Size: M2; Supplier 1: Farnell; Supplier Part Number 1: 1552206; RoHS: TBA; Stock 1: 19; Pricing 1: 100=0.0624, 500=0.0551, 1000=0.0498, 2500=0.046 (EUR); Thread Size - Metric: M2; Material: Stainless Steel; ComponentLink1URL: http://www.farnell.com/datasheets/1511479.pdf; ComponentLink1Description: http://www.farnell.com/datasheets/1511479.pdf
footprint 3D_MODEL_NUT_A4_SS_M2

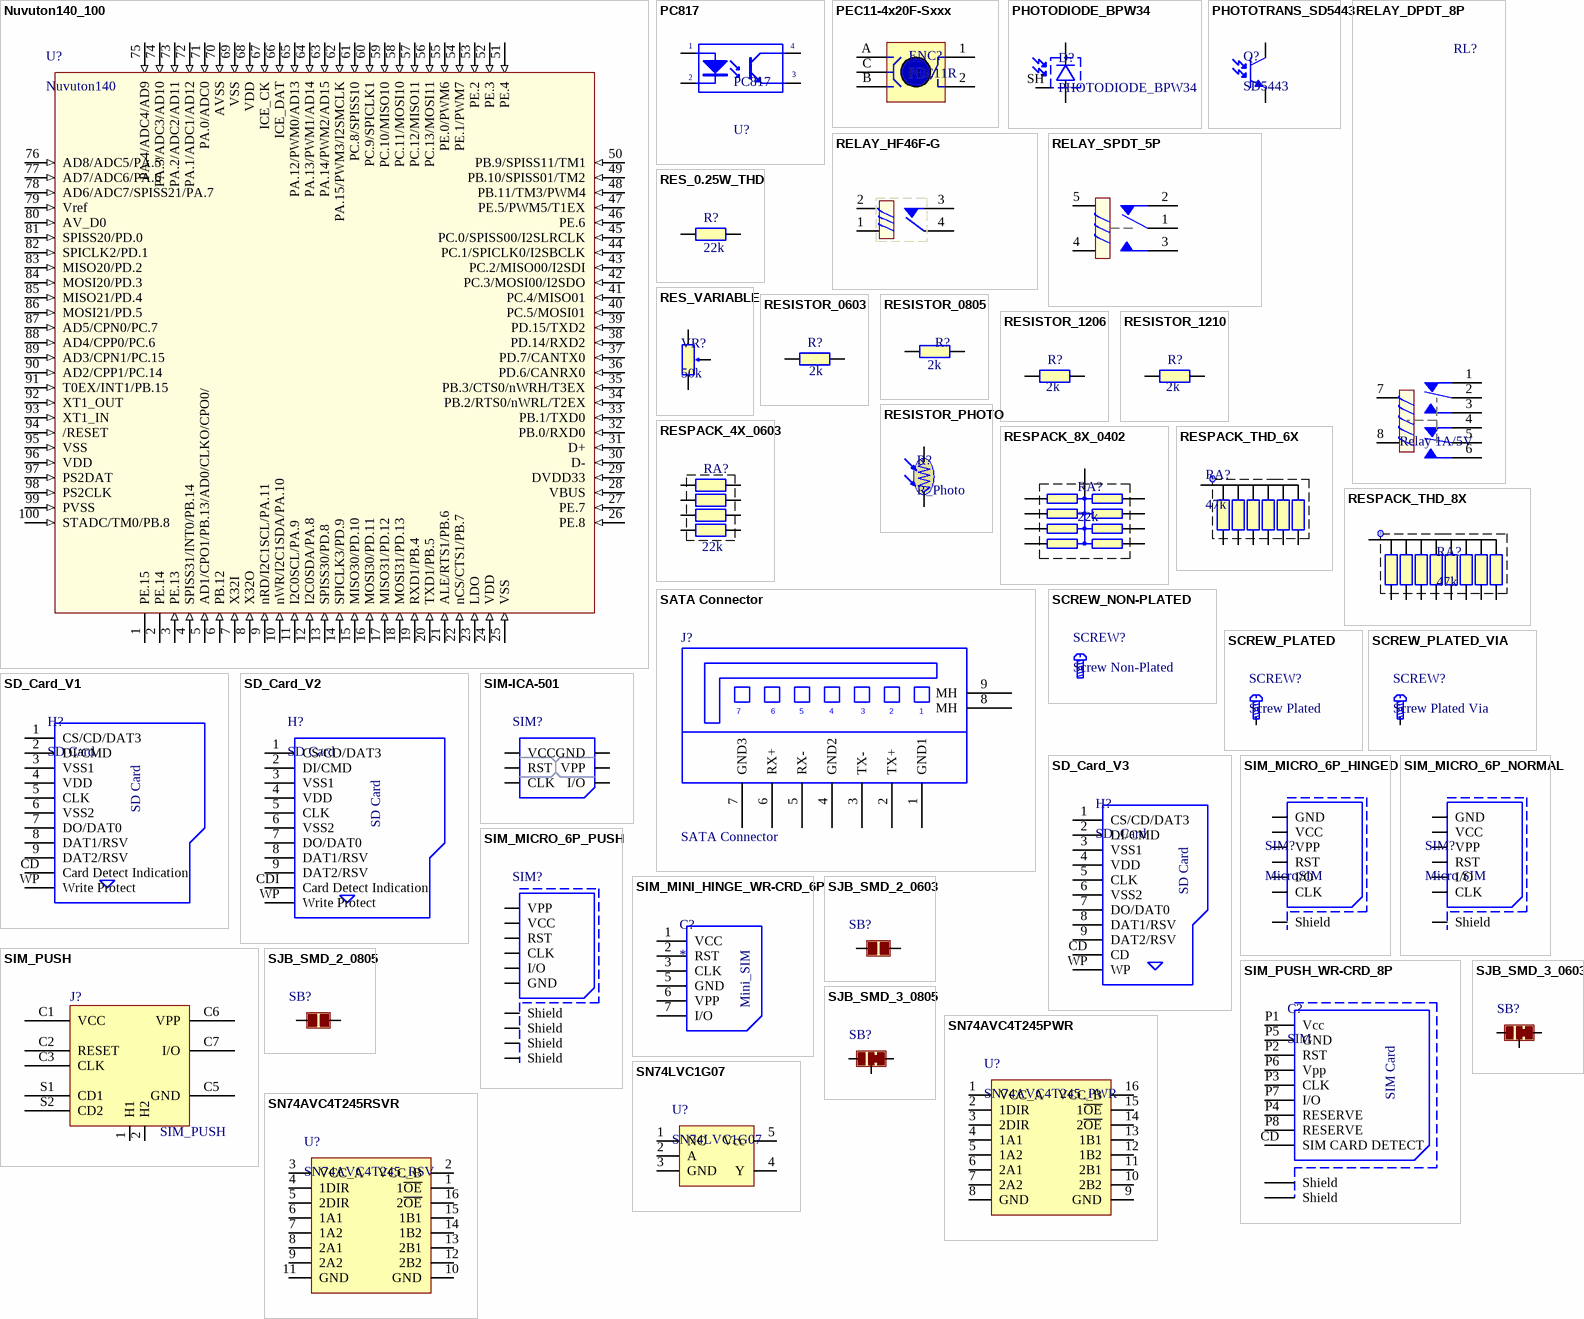
[diagram p5: symbols Nuvuton140_100 to SN74LVC1G07]

## Nuvuton140_100
designator U?, comment Nuvuton140
footprint SQFP50P1600X1600X245-100N (SQFP, 100-Leads, Body 14.00x14.00mm, Pitch 0.50mm, IPC Medium Density)
pins: 1 PE.15, 2 PE.14, 3 PE.13 (in), 4 SPISS31/INT0/PB.14 (in), 5 AD1/CPO1/PB.13/AD0/CLKO/CPO0/ (in), 6 PB.12 (in), 7 X32I (in), 8 X32O (in), 9 nRD/I2C1SCL/PA.11 (in), 10 nWR/I2C1SDA/PA.10 (in), 11 I2C0SCL/PA.9 (in), 12 I2C0SDA/PA.8 (in), 13 SPISS30/PD.8 (in), 14 SPICLK3/PD.9 (in), 15 MISO30/PD.10 (in), 16 MOSI30/PD.11 (in), 17 MISO31/PD.12 (in), 18 MOSI31/PD.13 (in), 19 RXD1/PB.4 (in), 20 TXD1/PB.5 (in), 21 ALE/RTS1/PB.6 (in), 22 nCS/CTS1/PB.7 (in), 23 LDO (in), 24 VDD (in), 25 VSS (in), 26 PE.8 (in), 27 PE.7 (in), 28 VBUS (in), 29 DVDD33 (in), 30 D- (in), 31 D+ (in), 32 PB.0/RXD0 (in), 33 PB.1/TXD0 (in), 34 PB.2/RTS0/nWRL/T2EX (in), 35 PB.3/CTS0/nWRH/T3EX (in), 36 PD.6/CANRX0 (in), 37 PD.7/CANTX0 (in), 38 PD.14/RXD2 (in), 39 PD.15/TXD2 (in), 40 PC.5/MOSI01 (in), 41 PC.4/MISO01 (in), 42 PC.3/MOSI00/I2SDO (in), 43 PC.2/MISO00/I2SDI (in), 44 PC.1/SPICLK0/I2SBCLK (in), 45 PC.0/SPISS00/I2SLRCLK (in), 46 PE.6 (in), 47 PE.5/PWM5/T1EX (in), 48 PB.11/TM3/PWM4 (in), 49 PB.10/SPISS01/TM2 (in), 50 PB.9/SPISS11/TM1 (in), 51 PE.4 (in), 52 PE.3 (in), 53 PE.2 (in), 54 PE.1/PWM7 (in), 55 PE.0/PWM6 (in), 56 PC.13/MOSI11 (in), 57 PC.12/MISO11 (in), 58 PC.11/MOSI10 (in), 59 PC.10/MISO10 (in), 60 PC.9/SPICLK1 (in), 61 PC.8/SPISS10 (in), 62 PA.15/PWM3/I2SMCLK (in), 63 PA.14/PWM2/AD15 (in), 64 PA.13/PWM1/AD14 (in), 65 PA.12/PWM0/AD13 (in), 66 ICE_DAT (in), 67 ICE_CK (in), 68 VDD (in), 69 VSS (in), 70 AVSS (in), 71 PA.0/ADC0 (in), 72 PA.1/ADC1/AD12 (in), 73 PA.2/ADC2/AD11 (in), 74 PA.3/ADC3/AD10 (in), 75 PA.4/ADC4/AD9 (in), 76 AD8/ADC5/PA.5 (in), 77 AD7/ADC6/PA.6 (in), 78 AD6/ADC7/SPISS21/PA.7 (in), 79 Vref (in), 80 AV_D0 (in), 81 SPISS20/PD.0 (in), 82 SPICLK2/PD.1 (in), 83 MISO20/PD.2 (in), 84 MOSI20/PD.3 (in), 85 MISO21/PD.4 (in), 86 MOSI21/PD.5 (in), 87 AD5/CPN0/PC.7 (in), 88 AD4/CPP0/PC.6 (in), 89 AD3/CPN1/PC.15 (in), 90 AD2/CPP1/PC.14 (in), 91 T0EX/INT1/PB.15 (in), 92 XT1_OUT (in), 93 XT1_IN (in), 94 /RESET (in), 95 VSS (in), 96 VDD (in), 97 PS2DAT (in), 98 PS2CLK (in), 99 PVSS (in), 100 STADC/TM0/PB.8 (in)

## PC817
designator U?
Single Opto; Value: PC817
pins: 1 A "Anode", 2 K "Cathode", 3 E "Emitter", 4 C "Collector"

## PEC11-4x20F-Sxxx
designator ENC?, comment PEC11R
Encoders 20mm SHAFT w/SWITCH; Manufacturer: Bourns; Manufacturer Part Number: PEC11R-4220F-S0024; Number of Detents: 24; Output: Quadrature; Resolution: 24 PPR; With Switch: Switch; Number of Channels: 2 Channel; Shaft Type: Flatted; Product Status: New Product; Supplier 1: Mouser; RoHS: RoHS Compliant; Category: Encoders; Stock 1: 746; Pricing 1: 1=1.18, 10=0.968, 50=0.848, 100=0.734, 250=0.729, 500=0.715 (EUR); Operating Temperature Range: - 30 C to + 70 C; Packaging: Bulk; Product: Mechanical Encoders; Series: PEC11R; Type: Incremental; Brand: Bourns; Product Category: Encoders; Standard Pack Qty: 75; RoHS - Mouser: Y; Minimum Order Quantity: 1; Reeling: False; ComponentLink1URL: http://www.bourns.com/data/global/pdfs/PEC11R.pdf; ComponentLink1Description: http://www.bourns.com/data/global/pdfs/PEC11R.pdf
footprint PEC11-4x20F-Sxxx (Incrmental Encoder with momentary puch switch)
pins: 1, 2, A, B, C, GND (power) hidden to GND

## PHOTODIODE_BPW34
designator D?
pins: A, K, SH Shield

## PHOTOTRANS_SD5443
designator Q?, comment SD5443
footprint HDR_Phototrans_TO-46 (LED TO-46 form, edge straddling)
pins: 1 E, 3 C

## RELAY_DPDT_8P
designator RL?, comment Relay 1A/5V
Relay DPDT; Discription: Relay DPDT 5V, 12V - 1A - 5A; Value: Relay - 5V - 1A
footprint RELAY_DPDT_5A (Relay DPDT, 8 pin, 5A, W500mil, L1100mil,H 950mil)
footprint RELAY_DPDT_1A (Relay DPDT, 8 pin, 1A, W400mil, L800mil,H 300mil)
pins: 1, 2, 3, 4, 5, 6, 7, 8

## RELAY_HF46F-G
designator RL?, comment Relay 24V/5A
Relay HF46F-G 24V 5A
footprint RELAY_HF46F-G_4P
pins: 1, 2, 3, 4

## RELAY_SPDT_5P
designator RL?, comment Relay 10A/12V
Relay SPDT,10A - 12VDC 5 Pin; Value: Relay SPDT, 10A, 12V
footprint RELAY_SPDT_10A (Relay SPDT, 5 pin, 10A,W 650mil, L 800mil, H 800mil)
pins: 1, 2, 3, 4, 5

## RES_0.25W_THD
designator R?, comment 22k
footprint RESC_THD_AXIAL-0.25W (R 1/4W, 2 Pin, 400mil)
footprint RESC_THD_AXIAL-0.25W-WD (R 1/4W, 2 Pin, 400mil)
pins: 1, 2

## RES_VARIABLE
designator VR?, comment 50k
footprint RESV-3926W
pins: 1, 2, 3

## RESISTOR_0603
designator R?, comment 2k
Value: 2k
footprint RESC_0603_1608X55N (Chip Resistor, Body 1.6x0.8mm, EIA 0603, IPC Medium Density)
pins: 1, 2

## RESISTOR_0805
designator R?, comment 2k
Value: 2k
footprint RESC_0805_2012X70N (Chip Resistor, Body 2.0x1.2mm, EIA 0805, IPC Medium Density)
pins: 1, 2

## RESISTOR_1206
designator R?, comment 2k
Value: 2k
footprint RESC_1206_3216X70N (Chip Resistor, Body 3.2x1.6mm, EIA 1206, IPC Medium Density)
pins: 1, 2

## RESISTOR_1210
designator R?, comment 2k
Value: 2k
footprint RESC_1210_3225X70N (Chip Resistor, Body 3.2x2.5mm, EIA 1210, IPC Medium Density)
pins: 1, 2

## RESISTOR_PHOTO
designator R?, comment R_Photo
footprint RESC_PHOTO
pins: 1, 2

## RESPACK_4X_0603
designator RA?, comment 22k
Resistor array 1K Ohm 4-pack 62.5mW 5% 4x1608 SMD; Value: 22k
footprint RESP_4x0603_1632_8N (Resistor Pack, Body 1.6x3.2mm, 4x0603, IPC Medium Density)
pins: 1, 2, 3, 4, 5, 6, 7, 8

## RESPACK_8X_0402
designator RA?, comment 22k
footprint RESP_8X0402_1N8X (Resistor Pack, Body 4.0x2.1mm, 8 elements bussed, IPC Medium Density)
pins: 1 COM, 2, 3, 4, 5, 6 COM, 7, 8, 9, 10

## RESPACK_THD_6X
designator RA?, comment 47k
footprint RESP_THD_7P
pins: 1, 2, 3, 4, 5, 6, 7

## RESPACK_THD_8X
designator RA?, comment 47k
footprint RESP_THD_9P
pins: 1, 2, 3, 4, 5, 6, 7, 8, 9

## SATA Connector
designator J?
CONN SATA HDR 7POS PCB VERT; Manufacturer: Molex Inc; Manufacturer Part Number: 0471554001; Connector Style: Header, Shrouded; Number of Positions: 7; .Checked PCB: RF; Supplier 1: Digi-Key; Supplier Part Number 1: WM4059-ND; RoHS: RoHS Compliant; Category: Connectors, Interconnects; Stock 1: 8065; Pricing 1: 1=1.37, 10=1.065, 25=0.9928, 50=0.9026, 100=0.8123, 250=0.68592, 500=0.6498, 1000=0.5776, 2500=0.48013 (USD); Connector Type: SATA; Mounting Type: Through Hole; Termination: Solder; Features: Board Lock; Contact Finish: Gold; Contact Finish Thickness: Flash; Packaging: Tray; ComponentLink1URL: http://www.molex.com/elqNow/elqRedir.htm?ref=http://www.molex.com/pdm_docs/sd/471554001_sd.pdf; ComponentLink1Description: http://www.molex.com/elqNow/elqRedir.htm?ref=http://www.molex.com/pdm_docs/sd/471554001_sd.pdf; .Checked SCH: RF
footprint CONN_SATA_VERTICAL
pins: 1 GND1, 2 TX+, 3 TX-, 4 GND2, 5 RX-, 6 RX+, 7 GND3, 8 MH, 9 MH

## SCREW_NON-PLATED
designator SCREW?, comment Screw Non-Plated
footprint SCREW_NON-PLATED_2MM
footprint SCREW_NON-PLATED_3MM

## SCREW_PLATED
designator SCREW?, comment Screw Plated
footprint SCREW_PLATED_2mm (ISO14583 M2x4 (d=2mm, L=4mm))
footprint SCREW_PLATED_3mm (ISO14583 M3x5 (d=3mm, L=5mm))
footprint SCREW_PLATED_4mm (ISO14583 M4x6 (d=4mm, L=6mm))
footprint SCREW_PLATED_5mm (ISO14583 M5x6 (d=5mm, L=6mm))
pins: HOLE

## SCREW_PLATED_VIA
designator SCREW?, comment Screw Plated Via
footprint SCREW_PLATED_VIA_2mm (ISO14583 M2x4 (d=2mm, L=4mm))
footprint SCREW_PLATED_VIA_3mm (ISO14583 M3x5 (d=3mm, L=5mm))
pins: HOLE

## SD_Card_V1
designator H?, comment SD Card
WR-CRD SD_Push and Pull; Manufacturer: Würth Elektronik eiSos GmbH; partNo: 693063020911; ComponentLink1 Description: Manufacturer; ComponentLink2 Description: Datasheet; NoPins: 11; ComponentLink1URL: http://www.we-online.de; ComponentLink2URL: http://katalog.we-online.de/em/datasheet/693063020911.pdf; Created by: Karrer Zheng; Created Date: 10/10/2014
footprint SD_CARD_V1 (WR-CRD SD_Push and Pull_Short Version with Card Detection_9 pins)
pins: 1 CS/CD/DAT3, 2 DI/CMD, 3 VSS1, 4 VDD, 5 CLK, 6 VSS2, 7 DO/DAT0, 8 DAT1/RSV, 9 DAT2/RSV, CD Card Detect Indication, WP Write Protect

## SD_Card_V2
designator H?, comment SD Card
WR-CRD SD_Push and Pull; Manufacturer: Würth Elektronik eiSos GmbH; partNo: 693063010911; ComponentLink1 Description: Manufacturer; ComponentLink2 Description: Datasheet; NoPins: 11; ComponentLink1URL: http://www.we-online.de; ComponentLink2URL: http://katalog.we-online.de/em/datasheet/693063010911.pdf; Created by: Karrer Zheng; Created Date: 10/10/2014
footprint SD_CARD_V2 (WR-CRD SD_Push and Pull_with card detection_9 pins)
pins: 1 CS/CD/DAT3, 2 DI/CMD, 3 VSS1, 4 VDD, 5 CLK, 6 VSS2, 7 DO/DAT0, 8 DAT1/RSV, 9 DAT2/RSV, CDI Card Detect Indication, WP Write Protect

## SD_Card_V3
designator H?, comment SD_Card
WR-CRD SD_Push and Push; Manufacturer: Würth Elektronik eiSos GmbH; partNo: 693061010911; ComponentLink1 Description: Manufacturer; ComponentLink2 Description: Datasheet; NoPins: 11; ComponentLink1URL: http://www.we-online.de; ComponentLink2URL: http://katalog.we-online.de/em/datasheet/693061010911.pdf; Created by: Karrer Zheng; Created Date: 10/10/2014
footprint SD_CARD_V3 (WR-CRD SD_Push and Push_with card detection_9 pins)
pins: 1 CS/CD/DAT3, 2 DI/CMD, 3 VSS1, 4 VDD, 5 CLK, 6 VSS2, 7 DO/DAT0, 8 DAT1/RSV, 9 DAT2/RSV, CD, WP
text: SD Card

## SIM-ICA-501
designator SIM?  (value not drawn)
footprint CONN_SIM_ICA-501-006-F7
pins: CLOCK CLK, DATA I/O, GND, NC VPP, RESET RST, VCC

## SIM_MICRO_6P_HINGED
designator SIM?, comment MicroSIM
Manufacturer 1: Wurth Electronics Inc; Manufacturer Part Number 1: 693022010811; Description 1: CONN SMART CARD; Number of Positions: 8; Connector Type: Connector and Ejector; Insertion, Removal Method: Hinged Lid; Supplier 1: Digi-Key; RoHS: RoHS Compliant; Category: Connectors, Interconnects; Stock 1: 850; Pricing 1: 1=1.77, 10=1.625, 50=1.505, 100=1.385, 500=1.204 (USD); Packaging: Cut Tape (CT); Part Status: Active; Card Type: Micro SIM; Ejector Side: -; Mounting Type: Surface Mount, Right Angle; Features: Shielded; Height Above Board: 0.077" (1.95mm); Mounting Feature: Normal, Standard - Top; Contact Finish: Gold; Contact Finish Thickness: -; ComponentLink1URL: http://katalog.we-online.de/em/datasheet/693022010811.pdf; ComponentLink1Description: http://katalog.we-online.de/em/datasheet/693022010811.pdf; Supplier Part Number 1: 732-5957-1-ND
footprint CONN_MICRO_SIM_HINGED (Wurth Electronics 693022010811)
pins: C1 VCC, C2 RST, C3 CLK, C5 GND, C6 VPP, C7 I/O, SH1 Shield

## SIM_MICRO_6P_NORMAL
designator SIM?, comment Micro SIM
Manufacturer 1: Molex, LLC; Manufacturer Part Number 1: 0786463001; Description 1: CONN MICRO SIM CARD PUSH-PULL; Number of Positions: 6; Connector Type: Connector; Insertion, Removal Method: Push In, Pull Out; Supplier 1: Digi-Key; RoHS: RoHS Compliant; Category: Connectors, Interconnects; Stock 1: 30900; Pricing 1: 1=1.08, 10=0.953, 25=0.8964, 50=0.8592, 100=0.8218, 250=0.74712, 500=0.6724 (USD); Packaging: Cut Tape (CT); Part Status: Active; Card Type: Micro SIM; Ejector Side: -; Mounting Type: Surface Mount, Right Angle; Features: -; Height Above Board: 0.057" (1.45mm); Mounting Feature: Normal, Standard - Top; Contact Finish: Gold; Contact Finish Thickness: 15µin (0.38µm); ComponentLink1URL: http://www.molex.com/pdm_docs/sd/786463001_sd.pdf; ComponentLink1Description: http://www.molex.com/pdm_docs/sd/786463001_sd.pdf; Supplier Part Number 1: WM9364CT-ND
footprint CONN_MICRO_SIM_NORMAL
pins: 1 VCC, 2 RST, 3 CLK, 5 GND, 6 VPP, 7 I/O, SH1 Shield

## SIM_MICRO_6P_PUSH
designator SIM?, comment MicroSIM  (value not drawn)
footprint CONN_MICRO_SIM_6P_PUSH
pins: CLK, DATA I/O, GND, RST, SH1 Shield, SH2 Shield, SH3 Shield, SH4 Shield, VCC, VPP

## SIM_MINI_HINGE_WR-CRD_6P
designator C?
WR-CRD mini SIM_Hinge type_6 pins; Manufacturer: Würth Elektronik eiSos GmbH; partNo: 693012040811; ComponentLink1 Description: Manufacturer; ComponentLink2 Description: Datasheet; NoPins: 6; ComponentLink1URL: http://www.we-online.de; ComponentLink2URL: http://katalog.we-online.de/em/datasheet/693012040811.pdf; Created by: Karrer Zheng; Created Date: 10/10/2014
footprint CONN_SIM_HINGE_WR-CRD_6P (WR-CRD mini SIM_Hinge type_6 pins_with cover shell_Housing Height 1.80mm)
pins: 1 VCC, 2 RST, 3 CLK, 5 GND, 6 VPP, 7 I/O
text: Mini_SIM

## SIM_PUSH
designator J?
CONN CARD HOLDER SIM 6POS SMD; Manufacturer: Molex Inc; Manufacturer Part Number: 0475531001; Card Type: SIM Card; Number of Positions: 8 (6 + 2); Connector Type: Connector; Insertion, Removal Method: Push In, Push Out; .Creator: MM; Supplier 1: Digi-Key; RoHS: RoHS Compliant; Category: Connectors, Interconnects; Stock 1: 8474; Pricing 1: 1=2.94, 10=2.822, 25=2.5868, 50=2.4694, 100=2.3518, 250=2.05784 (USD); Packaging: Cut Tape (CT); Ejector Side: -; Mounting Type: Surface Mount, Right Angle; Features: Switch; Height Above Board: 0.071" (1.80mm); Mounting Feature: Normal, Standard - Top; Contact Finish: Gold; Contact Finish Thickness: 30µin (0.76µm); ComponentLink1URL: http://www.molex.com/pdm_docs/sd/475531001_sd.pdf; ComponentLink1Description: http://www.molex.com/pdm_docs/sd/475531001_sd.pdf; Supplier Part Number 1: WM6739CT-ND; .Checked PCB: MM; .Checked SCH: MM
footprint CONN_SIM_PUSH_8P_2
pins: 1 H1, 2 H2, C1 VCC, C2 RESET, C3 CLK, C5 GND, C6 VPP, C7 I/O, S1 CD1, S2 CD2

## SIM_PUSH_WR-CRD_8P
designator C?, comment SIM
WR-CRD Mega SIM_Push and Push_8 pins; Manufacturer: Würth Elektronik eiSos GmbH; partNo: 693013050811; ComponentLink1 Description: Manufacturer; ComponentLink2 Description: Datasheet; NoPins: 9; ComponentLink1URL: http://www.we-online.de; ComponentLink2URL: http://katalog.we-online.de/em/datasheet/693013050811.pdf; Created by: Karrer Zheng; Created Date: 10/10/2014
footprint CONN_SIM_PUSH_8P (WR-CRD Mega SIM_Push and Push_8 pins_with Card Detection_Housing Height 1.50mm)
pins: CD SIM CARD DETECT, P1 Vcc, P2 RST, P3 CLK, P4 RESERVE, P5 GND, P6 Vpp, P7 I/O, P8 RESERVE, Z1 Shield, Z2 Shield
text: SIM Card

## SJB_SMD_2_0603
designator SB?, comment Solder Jumper  (value not drawn)
footprint SJB_2_0603
pins: 1, 2

## SJB_SMD_2_0805
designator SB?, comment SolderJump  (value not drawn)
footprint SJB_2_0805 (Solder Jump Bridge)
pins: 1, 2

## SJB_SMD_3_0603
designator SB?, comment SolderJump  (value not drawn)
footprint SJB_3_0603 (Solder Jumper Bridge (Size:0603))
pins: 1, 2, 3

## SJB_SMD_3_0805
designator SB?, comment SolderJump  (value not drawn)
footprint SJB_3_0805 (Solder Jump Bridge)
pins: 1, 2, 3

## SN74AVC4T245PWR
designator U?, comment SN74AVC4T245_PWR
Manufacturer 1: Texas Instruments; Manufacturer Part Number 1: SN74AVC4T245PWR; Description 1: IC BUS TRANSCVR 4BIT 16TSSOP; Translator Type: Voltage Level; Channel Type: Bidirectional; Number of Circuits: 2; Voltage - VCCA: 1.2 V ~ 3.6 V; Output Type: Tri-State, Non-Inverted; Data Rate: 380Mbps; Supplier 1: Digi-Key; RoHS: RoHS Compliant; Category: Integrated Circuits (ICs); Stock 1: 21980; Pricing 1: 1=1.01, 10=0.906, 100=0.7063, 500=0.58408, 1000=0.4619 (USD); Packaging: Cut Tape (CT); Part Status: Active; Channels per Circuit: 2; Voltage - VCCB: 1.2 V ~ 3.6 V; Input Signal: -; Output Signal: -; Operating Temperature: -40°C ~ 85°C (TA); Features: -; Mounting Type: Surface Mount; Package / Case: 16-TSSOP (0.173", 4.40mm Width); Supplier Device Package: 16-TSSOP; ComponentLink1URL: http://www.ti.com/lit/ds/symlink/sn74avc4t245.pdf; ComponentLink1Description: http://www.ti.com/lit/ds/symlink/sn74avc4t245.pdf; Supplier Part Number 1: 296-18056-1-ND
footprint TSSOP65P640X120-16N (TSSOP, 16 Leads, Body 5.1x4.5mm (max), Pitch 0.65mm, IPC Medium Density)
pins: 1 VCC_A, 2 1DIR, 3 2DIR, 4 1A1, 5 1A2, 6 2A1, 7 2A2, 8 GND, 9 GND, 10 2B2, 11 2B1, 12 1B2, 13 1B1, 14 2~{OE}, 15 1~{OE}, 16 VCC_B

## SN74AVC4T245RSVR
designator U?, comment SN74AVC4T245_RSV
Manufacturer 1: Texas Instruments; Manufacturer Part Number 1: SN74AVC4T245RSVR; Description 1: IC BUS TRANSCVR 4BIT 16-UQFN; Translator Type: Voltage Level; Channel Type: Bidirectional; Number of Circuits: 2; Voltage - VCCA: 1.2 V ~ 3.6 V; Output Type: Tri-State, Non-Inverted; Data Rate: 380Mbps; Supplier 1: Digi-Key; RoHS: RoHS Compliant; Category: Integrated Circuits (ICs); Stock 1: 27000; Pricing 1: 3000=0.4578, 6000=0.43491, 15000=0.41856, 30000=0.40875 (USD); Packaging: Tape & Reel (TR); Part Status: Active; Channels per Circuit: 2; Voltage - VCCB: 1.2 V ~ 3.6 V; Input Signal: -; Output Signal: -; Operating Temperature: -40°C ~ 85°C (TA); Features: -; Mounting Type: Surface Mount; Package / Case: 16-UFQFN; Supplier Device Package: 16-UQFN (2.6x1.8); ComponentLink1URL: http://www.ti.com/lit/ds/symlink/sn74avc4t245.pdf; ComponentLink1Description: http://www.ti.com/lit/ds/symlink/sn74avc4t245.pdf; Supplier Part Number 1: 296-24366-2-ND
footprint UFQFN-16
pins: 1 1~{OE}, 2 VCC_B, 3 VCC_A, 4 1DIR, 5 2DIR, 6 1A1, 7 1A2, 8 2A1, 9 2A2, 10 GND, 11 GND, 12 2B2, 13 2B1, 14 1B2, 15 1B1, 16 2~{OE}

## SN74LVC1G07
designator U?
Manufacturer 1: Texas Instruments; Manufacturer Part Number 1: SN74LVC1G07DBVR; Description 1: IC BUFF/DVR NON-INVERT SOT23-5; Logic Type: Buffer, Non-Inverting; Number of Elements: 1; Output Type: Open Drain; Current - Output High, Low: -, 32mA; Voltage - Supply: 1.65 V ~ 5.5 V; Supplier 1: Digi-Key; RoHS: RoHS Compliant; Category: Integrated Circuits (ICs); Stock 1: 57110; Pricing 1: 1=0.42, 10=0.315, 100=0.196, 500=0.134, 1000=0.103 (USD); Packaging: Digi-Reel®; Part Status: Active; Number of Bits per Element: 1; Input Type: -; Operating Temperature: -40°C ~ 125°C (TA); Mounting Type: Surface Mount; Package / Case: SC-74A, SOT-753; Supplier Device Package: SOT-23-5; ComponentLink1URL: http://www.ti.com/lit/ds/symlink/sn74lvc1g07.pdf; ComponentLink1Description: http://www.ti.com/lit/ds/symlink/sn74lvc1g07.pdf; Supplier Part Number 1: 296-8485-6-ND
footprint SOT23-5
pins: 1 NC, 2 A, 3 GND, 4 Y, 5 Vcc

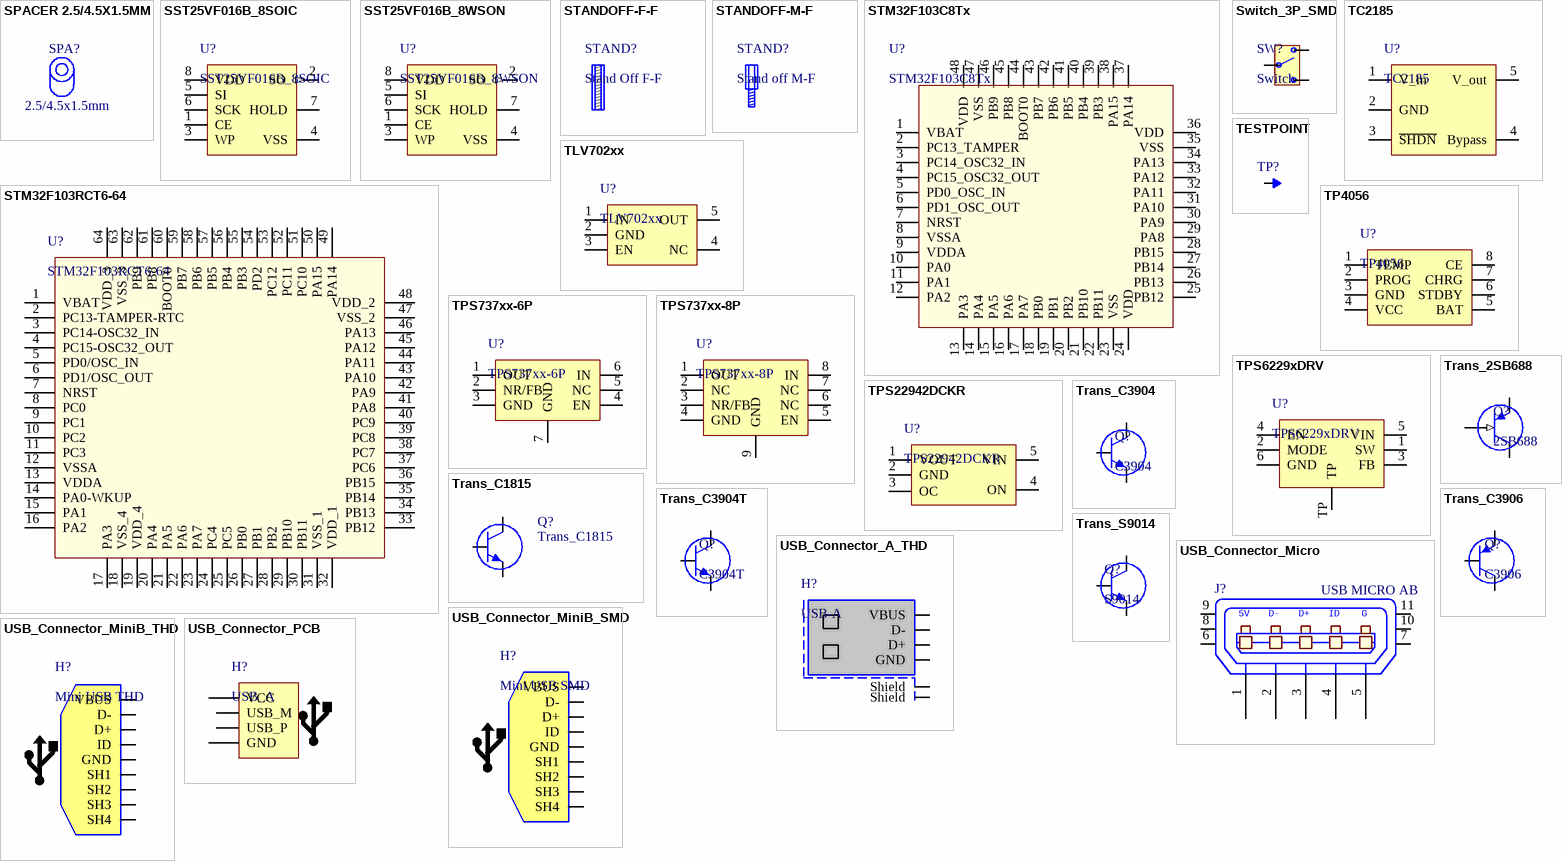
[diagram p6: symbols SPACER 2.5/4.5X1.5MM to USB_Connector_PCB]

## SPACER 2.5/4.5X1.5MM
designator SPA?, comment 2.5/4.5x1.5mm
SPACER 2.5/4.5X1.5MM; .Creator: MM; Category: Spacer; .Checked SCH: MM
footprint 3D_MODEL_SPACER 2.5/4.5X1.5MM

## SST25VF016B_8SOIC
designator U?
IC FLASH 16MBIT 50MHZ 8SOIC; MPN: SST25VF016B-50-4I-S2AF; Manufacturer 1: Microchip Technology; Memory Size: 16M (2M x 8); Interface: SPI Serial; Voltage - Supply: 2.7 V ~ 3.6 V; OC_FARNELL: 1368695; OC_NEWARK: 82R4471; PACKAGE: SOIC-8; SUPPLIER: SILICON STORAGE TECHNOLOGY; Supplier 1: Digi-Key; Manufacturer Part Number 1: SST25VF016B-50-4I-S2AF; RoHS: RoHS Compliant; Description 1: IC FLASH 16MBIT 50MHZ 8SOIC; Category: Integrated Circuits (ICs); Stock 1: 4545; Pricing 1: 1=1.42, 25=1.37, 100=1.31 (USD); Packaging: Tube; Part Status: Active; Format - Memory: FLASH; Memory Type: FLASH; Speed: 50MHz; Operating Temperature: -40°C ~ 85°C (TA); Package / Case: 8-SOIC (0.209", 5.30mm Width); Supplier Device Package: 8-SOIC; ComponentLink1URL: http://www.microchip.com/mymicrochip/filehandler.aspx?ddocname=en550401; ComponentLink1Description: http://www.microchip.com/mymicrochip/filehandler.aspx?ddocname=en550401; Supplier Part Number 1: SST25VF016B-50-4I-S2AF-ND
footprint SOIC127P790X216-8N
pins: 1 CE, 2 SO (out), 3 WP, 4 VSS, 5 SI, 6 SCK, 7 HOLD, 8 VDD (power)

## SST25VF016B_8WSON
designator U?
IC FLASH 16MBIT 50MHZ 8WSON; Manufacturer 1: Microchip Technology; Manufacturer Part Number 1: SST25VF016B-50-4C-QAF; Memory Size: 16M (2M x 8); Interface: SPI Serial; Voltage - Supply: 2.7 V ~ 3.6 V; Supplier 1: Digi-Key; RoHS: RoHS Compliant; Description 1: IC FLASH 16MBIT 50MHZ 8WSON; Category: Integrated Circuits (ICs); Stock 1: 3275; Pricing 1: 1=1.46, 25=1.41, 100=1.35 (USD); Packaging: Tube; Part Status: Active; Format - Memory: FLASH; Memory Type: FLASH; Speed: 50MHz; Operating Temperature: 0°C ~ 70°C (TA); Package / Case: 8-WDFN Exposed Pad; Supplier Device Package: 8-WSON (6x5); ComponentLink1URL: http://www.microchip.com/mymicrochip/filehandler.aspx?ddocname=en550401; ComponentLink1Description: http://www.microchip.com/mymicrochip/filehandler.aspx?ddocname=en550401; Supplier Part Number 1: SST25VF016B-50-4C-QAF-ND
footprint WSON-8
pins: 1 CE, 2 SO (out), 3 WP, 4 VSS, 5 SI, 6 SCK, 7 HOLD, 8 VDD (power)

## STANDOFF-F-F
designator STAND?, comment Stand Off F-F

## STANDOFF-M-F
designator STAND?, comment Stand off M-F

## STM32F103C8Tx
designator U?
footprint LQFP-48N (Thin QFP, 48-Leads, Body 7x7mm, Pitch 0.5mm, IPC Medium Density)
pins: 1 VBAT, 2 PC13_TAMPER, 3 PC14_OSC32_IN, 4 PC15_OSC32_OUT, 5 PD0_OSC_IN, 6 PD1_OSC_OUT, 7 NRST, 8 VSSA, 9 VDDA, 10 PA0, 11 PA1, 12 PA2, 13 PA3, 14 PA4, 15 PA5, 16 PA6, 17 PA7, 18 PB0, 19 PB1, 20 PB2, 21 PB10, 22 PB11, 23 VSS, 24 VDD, 25 PB12, 26 PB13, 27 PB14, 28 PB15, 29 PA8, 30 PA9, 31 PA10, 32 PA11, 33 PA12, 34 PA13, 35 VSS, 36 VDD, 37 PA14, 38 PA15, 39 PB3, 40 PB4, 41 PB5, 42 PB6, 43 PB7, 44 BOOT0, 45 PB8, 46 PB9, 47 VSS, 48 VDD
1 alternate drawing of the same symbol

## STM32F103RCT6-64
designator U?
Manufacturer 1: STMicroelectronics; Description 1: IC MCU 32BIT 256KB FLASH 64LQFP; Core Processor: ARM® Cortex®-M3; Core Size: 32-Bit; Speed: 72MHz; Connectivity: CAN, I²C, IrDA, LIN, SPI, UART/USART, USB; Peripherals: DMA, Motor Control PWM, PDR, POR, PVD, PWM, Temp Sensor, WDT; Number of I/O: 51; Program Memory Size: 256KB (256K x 8); Program Memory Type: FLASH; RAM Size: 48K x 8; Voltage - Supply (Vcc/Vdd): 2 V ~ 3.6 V; Data Converters: A/D 16x12b; D/A 2x12b; Oscillator Type: Internal; Supplier 1: Digi-Key; Manufacturer Part Number 1: STM32F103RCT6; RoHS: RoHS Compliant; Category: Integrated Circuits (ICs); Stock 1: 3329; Pricing 1: 1=7.8, 10=7.043, 100=5.8313, 500=5.0778, 1000=4.4226 (USD); Packaging: Tray; Part Status: Active; EEPROM Size: -; Operating Temperature: -40°C ~ 85°C (TA); Package / Case: 64-LQFP; Supplier Device Package: *; ComponentLink1URL: http://www.st.com/content/ccc/resource/technical/document/datasheet/59/f6/fa/84/20/4e/4c/59/CD00191185.pdf/files/CD00191185.pdf/jcr:content/translations/en.CD00191185.pdf; ComponentLink1Description: http://www.st.com/content/ccc/resource/technical/document/datasheet/59/f6/fa/84/20/4e/4c/59/CD00191185.pdf/files/CD00191185.pdf/jcr:content/translations/en.CD00191185.pdf; Supplier Part Number 1: 497-9033-ND
footprint QFP50P1000X1000X160-64N
pins: 1 VBAT, 2 PC13-TAMPER-RTC, 3 PC14-OSC32_IN, 4 PC15-OSC32_OUT, 5 PD0/OSC_IN, 6 PD1/OSC_OUT, 7 NRST, 8 PC0, 9 PC1, 10 PC2, 11 PC3, 12 VSSA, 13 VDDA, 14 PA0-WKUP, 15 PA1, 16 PA2, 17 PA3, 18 VSS_4, 19 VDD_4, 20 PA4, 21 PA5, 22 PA6, 23 PA7, 24 PC4, 25 PC5, 26 PB0, 27 PB1, 28 PB2, 29 PB10, 30 PB11, 31 VSS_1, 32 VDD_1, 33 PB12, 34 PB13, 35 PB14, 36 PB15, 37 PC6, 38 PC7, 39 PC8, 40 PC9, 41 PA8, 42 PA9, 43 PA10, 44 PA11, 45 PA12, 46 PA13, 47 VSS_2, 48 VDD_2, 49 PA14, 50 PA15, 51 PC10, 52 PC11, 53 PC12, 54 PD2, 55 PB3, 56 PB4, 57 PB5, 58 PB6, 59 PB7, 60 BOOT0, 61 PB8, 62 PB9, 63 VSS_3, 64 VDD_3

## Switch_3P_SMD
designator SW?, comment Switch
footprint SWITCH-SPST-SMD-A
pins: 1 O, 2 P, 3 S

## TC2185
designator U?
Voltage Regulator (1.8, 3, 3.3V...)
footprint SOT23-5
pins: 1 V_in, 2 GND, 3 ~{SHDN}, 4 Bypass, 5 V_out

## TESTPOINT
designator TP?  (value not drawn)
footprint TP-R20
footprint TP-R30
footprint TP-R40
footprint TP-R60
pins: 1

## TLV702xx
designator U?
LDO Linear regulator (Fixed 1.2 - 4.75V)
footprint SOT23-5
pins: 1 IN, 2 GND, 3 EN, 4 NC, 5 OUT

## TP4056
designator U?
footprint SOP-8
pins: 1 TEMP, 2 PROG, 3 GND, 4 VCC, 5 BAT, 6 STDBY, 7 CHRG, 8 CE

## TPS737xx-6P
designator U?
Power Buck-Step down converter
footprint DRV6-1600X1000TP_V (SON, 6-Leads, Body 2x2mm, Pitch 0.65mm, Thermal Pad 1X1.6mm)
pins: 1 OUT, 2 NR/FB, 3 GND, 4 EN, 5 NC, 6 IN, 7 GND

## TPS737xx-8P
designator U?
Power Buck-Step down converter
footprint DRB8-2400X1650TP_V (SON, 8-Leads, Body 3x3mm, Pitch 0.65mm, Thermal Pad 2.4x1.65mm)
pins: 1 OUT, 2 NC, 3 NR/FB, 4 GND, 5 EN, 6 NC, 7 NC, 8 IN, 9 GND

## TPS6229xDRV
designator U?
Power Buck-Step down converter; Manufacturer 1: Texas Instruments; Manufacturer Part Number 1: TPS62291DRVR; Description 1: IC REG BUCK 3.3V 1A SYNC 6SON; Function: Step-Down; Output Configuration: Positive; Topology: Buck; Output Type: Fixed; Number of Outputs: 1; Voltage - Input (Min): 2.3V; Voltage - Input (Max): 6V; Voltage - Output (Min/Fixed): 3.3V; Current - Output: 1A; Frequency - Switching: 2.25MHz; Synchronous Rectifier: Yes; Supplier 1: Digi-Key; RoHS: RoHS Compliant; Category: Integrated Circuits (ICs); Stock 1: 752; Pricing 1: 1=1.96, 10=1.758, 100=1.4104, 500=1.1592, 1000=0.805 (USD); Packaging: Cut Tape (CT); Part Status: Active; Voltage - Output (Max): -; Operating Temperature: -40°C ~ 85°C (TA); Mounting Type: Surface Mount; Package / Case: 6-WDFN Exposed Pad; Supplier Device Package: 6-SON (2x2); ComponentLink1URL: http://www.ti.com/lit/ds/symlink/tps62293.pdf; ComponentLink1Description: http://www.ti.com/lit/ds/symlink/tps62293.pdf; Supplier Part Number 1: 296-41859-1-ND
footprint PWSON-N6
pins: 1 SW, 2 MODE, 3 FB, 4 EN, 5 VIN, 6 GND, TP

## TPS22942DCKR
designator U?
IC LOAD SWITCH L-INP V SC70-5; Manufacturer 1: Texas Instruments; Switch Type: General Purpose; Number of Outputs: 1; Ratio - Input:Output: 1:1; Output Configuration: High Side; Output Type: P-Channel; Interface: On/Off; Voltage - Load: 1.62 V ~ 5.5 V; Voltage - Supply (Vcc/Vdd): Not Required; Current - Output (Max): 100mA; Rds On (Typ): 400 mOhm; Input Type: Non-Inverting; Fault Protection: Current Limiting (Fixed), Over Temperature, UVLO; Supplier 1: Digi-Key; Manufacturer Part Number 1: TPS22942DCKR; RoHS: RoHS Compliant; Description 1: IC LOAD SWITCH L-INP V SC70-5; Category: Integrated Circuits (ICs); Stock 1: 0; Pricing 1: 1=0.92, 10=0.821, 100=0.6399, 500=0.5292, 1000=0.3375 (USD); Packaging: Cut Tape (CT); Part Status: Active; Features: Auto Restart; Operating Temperature: -40°C ~ 125°C (TJ); Package / Case: 5-TSSOP, SC-70-5, SOT-353; Supplier Device Package: SC-70-5; ComponentLink1URL: http://www.ti.com/lit/ds/symlink/tps22942.pdf; ComponentLink1Description: http://www.ti.com/lit/ds/symlink/tps22942.pdf; Supplier Part Number 1: 296-24772-1-ND
footprint SC70-5L (SC70, 5-Leads, Body 2.20x2.7mm, Pitch 0.65mm)
pins: 1 VOUT, 2 GND, 3 OC "Over current output flag, active LOW", 4 ON, 5 VIN

## Trans_2SB688
designator Q?, comment 2SB688
PNP 160V 8A 80W SC-65
footprint SC-65
pins: 1 B (in), 2 C, 3 E

## Trans_C1815
designator Q?
Transistor SMD NPN 600mW, ECB; Value: C1815
footprint SOT23-3 (SOT23, 3 pin)
pins: 1 B, 2 E, 3 C

## Trans_C3904
designator Q?, comment C3904
Transistor SMD NPN 40V 0.2A 250mW SOT-23
footprint SOT23-3 (SOT23, 3 pin)
pins: 1 B, 2 E, 3 C

## Trans_C3904T
designator Q?, comment C3904T
Transistor SMD NPN 40V 0.2A 250mW SOT-523F
footprint SOT523F (3 Lead SC89; EIAJ-SC89; SOT523F)
pins: 1 B, 2 E, 3 C

## Trans_C3906
designator Q?, comment C3906
Transistor SMD PNP 40V 0.2A 350mW SOT-23
footprint SOT23-3 (SOT23, 3 pin)
pins: 1 B, 2 E, 3 C